# Altium schematic symbol library ICs.SchLib: 74 symbols (part 1 of 2)
Pins are listed as number, name and electrical type; pins without a type are passive.

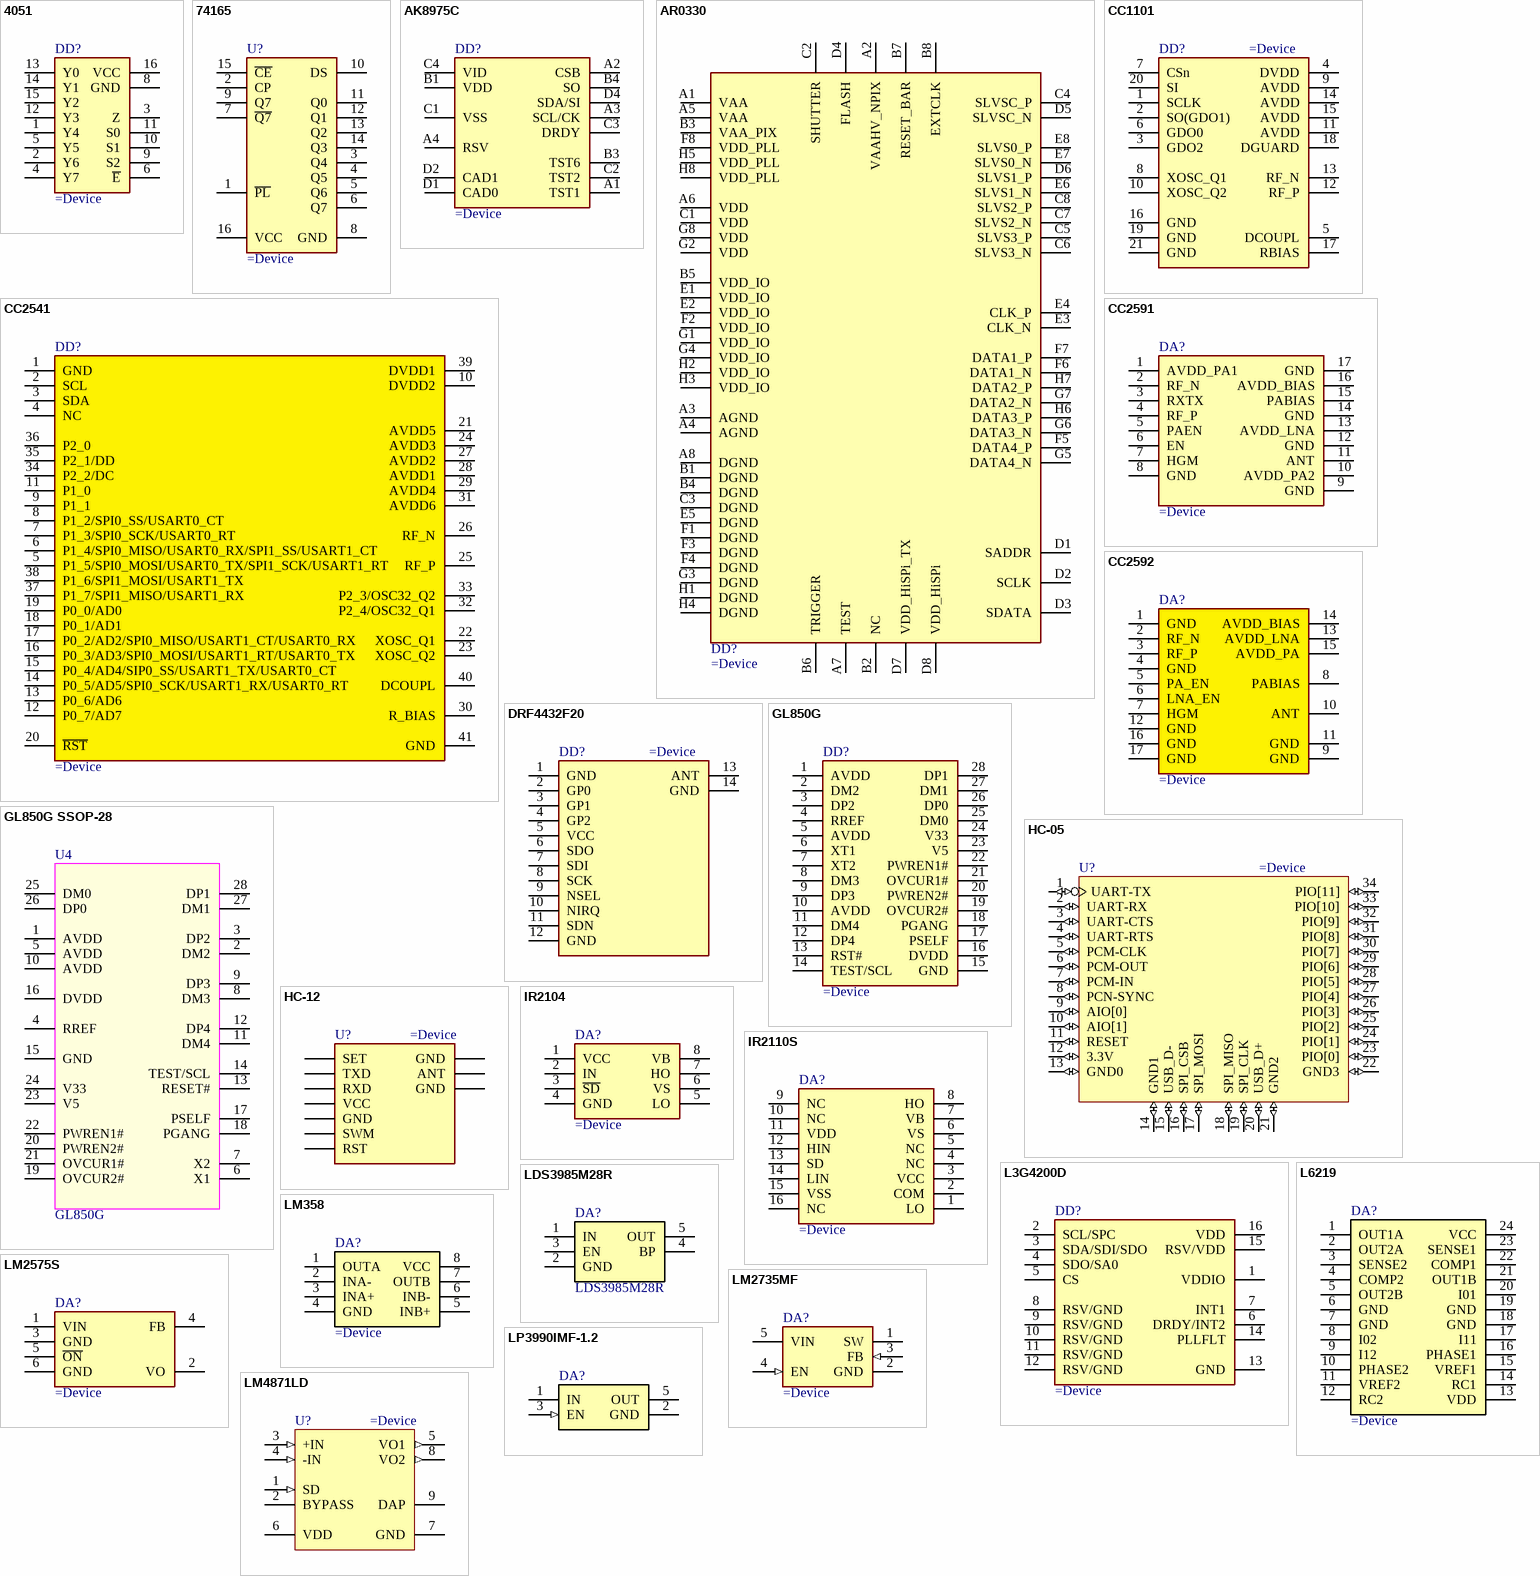
[diagram p0: symbols 4051 to LP3990IMF-1.2]

## 4051
designator DD?
pins: 1 Y4, 2 Y6, 3 Z, 4 Y7, 5 Y5, 6 ~{E}, 8 GND, 9 S2, 10 S1, 11 S0, 12 Y3, 13 Y0, 14 Y1, 15 Y2, 16 VCC

## 74165
designator U?
pins: 1 ~{PL} "master reset (active LOW)", 2 CP "master reset (active LOW)", 3 Q4 (hiz) "parallel data output 4", 4 Q5 (hiz) "parallel data output 5", 5 Q6 (hiz) "parallel data output 6", 6 Q7 (hiz) "parallel data output 7", 7 ~{Q7} "serial data output", 8 GND (power) "ground (0 V)", 9 Q7 "shift register clock input", 10 DS "output enable input (active LOW)", 11 Q0 (hiz) "parallel data output 0", 12 Q1 (hiz) "parallel data output 1", 13 Q2 (hiz) "parallel data output 2", 14 Q3 (hiz) "parallel data output 3", 15 ~{CE} "storage register clock input", 16 VCC (power) "supply voltage"

## AK8975C
designator DD?
pins: A1 TST1, A2 CSB, A3 SCL/CK, A4 RSV, B1 VDD, B3 TST6, B4 SO, C1 VSS, C2 TST2, C3 DRDY, C4 VID, D1 CAD0, D2 CAD1, D4 SDA/SI

## AR0330
designator DD?
pins: A1 VAA, A2 VAAHV_NPIX, A3 AGND, A4 AGND, A5 VAA, A6 VDD, A7 TEST, A8 DGND, B1 DGND, B2 NC, B3 VAA_PIX, B4 DGND, B5 VDD_IO, B6 TRIGGER, B7 RESET_BAR, B8 EXTCLK, C1 VDD, C2 SHUTTER, C3 DGND, C4 SLVSC_P, C5 SLVS3_P, C6 SLVS3_N, C7 SLVS2_N, C8 SLVS2_P, D1 SADDR, D2 SCLK, D3 SDATA, D4 FLASH, D5 SLVSC_N, D6 SLVS1_P, D7 VDD_HiSPi_TX, D8 VDD_HiSPi, E1 VDD_IO, E2 VDD_IO, E3 CLK_N, E4 CLK_P, E5 DGND, E6 SLVS1_N, E7 SLVS0_N, E8 SLVS0_P, F1 DGND, F2 VDD_IO, F3 DGND, F4 DGND, F5 DATA4_P, F6 DATA1_N, F7 DATA1_P, F8 VDD_PLL, G1 VDD_IO, G2 VDD, G3 DGND, G4 VDD_IO, G5 DATA4_N, G6 DATA3_N, G7 DATA2_N, G8 VDD, H1 DGND, H2 VDD_IO, H3 VDD_IO, H4 DGND, H5 VDD_PLL, H6 DATA3_P, H7 DATA2_P, H8 VDD_PLL

## CC1101
designator DD?
pins: 1 SCLK, 2 SO(GDO1), 3 GDO2, 4 DVDD, 5 DCOUPL, 6 GDO0, 7 CSn, 8 XOSC_Q1, 9 AVDD, 10 XOSC_Q2, 11 AVDD, 12 RF_P, 13 RF_N, 14 AVDD, 15 AVDD, 16 GND, 17 RBIAS, 18 DGUARD, 19 GND, 20 SI, 21 GND

## CC2541
designator DD?
pins: 1 GND, 2 SCL, 3 SDA, 4 NC, 5 P1_5/SPI0_MOSI/USART0_TX/SPI1_SCK/USART1_RT, 6 P1_4/SPI0_MISO/USART0_RX/SPI1_SS/USART1_CT, 7 P1_3/SPI0_SCK/USART0_RT, 8 P1_2/SPI0_SS/USART0_CT, 9 P1_1, 10 DVDD2, 11 P1_0, 12 P0_7/AD7, 13 P0_6/AD6, 14 P0_5/AD5/SPI0_SCK/USART1_RX/USART0_RT, 15 P0_4/AD4/SIP0_SS/USART1_TX/USART0_CT, 16 P0_3/AD3/SPI0_MOSI/USART1_RT/USART0_TX, 17 P0_2/AD2/SPI0_MISO/USART1_CT/USART0_RX, 18 P0_1/AD1, 19 P0_0/AD0, 20 ~{RST}, 21 AVDD5, 22 XOSC_Q1, 23 XOSC_Q2, 24 AVDD3, 25 RF_P, 26 RF_N, 27 AVDD2, 28 AVDD1, 29 AVDD4, 30 R_BIAS, 31 AVDD6, 32 P2_4/OSC32_Q1, 33 P2_3/OSC32_Q2, 34 P2_2/DC, 35 P2_1/DD, 36 P2_0, 37 P1_7/SPI1_MISO/USART1_RX, 38 P1_6/SPI1_MOSI/USART1_TX, 39 DVDD1, 40 DCOUPL, 41 GND

## CC2591
designator DA?
CC2591
pins: 1 AVDD_PA1, 2 RF_N, 3 RXTX, 4 RF_P, 5 PAEN, 6 EN, 7 HGM, 8 GND, 9 GND, 10 AVDD_PA2, 11 ANT, 12 GND, 13 AVDD_LNA, 14 GND, 15 PABIAS, 16 AVDD_BIAS, 17 GND

## CC2592
designator DA?
pins: 1 GND, 2 RF_N, 3 RF_P, 4 GND, 5 PA_EN, 6 LNA_EN, 7 HGM, 8 PABIAS, 9 GND, 10 ANT, 11 GND, 12 GND, 13 AVDD_LNA, 14 AVDD_BIAS, 15 AVDD_PA, 16 GND, 17 GND

## DRF4432F20
designator DD?
pins: 1 GND, 2 GP0, 3 GP1, 4 GP2, 5 VCC, 6 SDO, 7 SDI, 8 SCK, 9 NSEL, 10 NIRQ, 11 SDN, 12 GND, 13 ANT, 14 GND

## GL850G
designator DD?
pins: 1 AVDD, 2 DM2, 3 DP2, 4 RREF, 5 AVDD, 6 XT1, 7 XT2, 8 DM3, 9 DP3, 10 AVDD, 11 DM4, 12 DP4, 13 RST#, 14 TEST/SCL, 15 GND, 16 DVDD, 17 PSELF, 18 PGANG, 19 OVCUR2#, 20 PWREN2#, 21 OVCUR1#, 22 PWREN1#, 23 V5, 24 V33, 25 DM0, 26 DP0, 27 DM1, 28 DP1

## GL850G SSOP-28
designator U4, comment GL850G
USB HUB IC,1 TO 4
footprint SSOP65P780X200-28N (SSOP, 28-Leads, Body 10.20x5.30mm, Pitch 0.65mm, IPC Medium Density)
pins: 1 AVDD, 2 DM2, 3 DP2, 4 RREF, 5 AVDD, 6 X1, 7 X2, 8 DM3, 9 DP3, 10 AVDD, 11 DM4, 12 DP4, 13 RESET#, 14 TEST/SCL, 15 GND, 16 DVDD, 17 PSELF, 18 PGANG, 19 OVCUR2#, 20 PWREN2#, 21 OVCUR1#, 22 PWREN1#, 23 V5, 24 V33, 25 DM0, 26 DP0, 27 DM1, 28 DP1

## HC-05
designator U?
pins: 1 UART-TX (io), 2 UART-RX (io), 3 UART-CTS (io), 4 UART-RTS (io), 5 PCM-CLK (io), 6 PCM-OUT (io), 7 PCM-IN (io), 8 PCN-SYNC (io), 9 AIO[0] (io), 10 AIO[1] (io), 11 RESET (io), 12 3.3V (io), 13 GND0 (io), 14 GND1 (io), 15 USB_D- (io), 16 SPI_CSB (io), 17 SPI_MOSI (io), 18 SPI_MISO (io), 19 SPI_CLK (io), 20 USB_D+ (io), 21 GND2 (io), 22 GND3 (io), 23 PIO[0] (io), 24 PIO[1] (io), 25 PIO[2] (io), 26 PIO[3] (io), 27 PIO[4] (io), 28 PIO[5] (io), 29 PIO[6] (io), 30 PIO[7] (io), 31 PIO[8] (io), 32 PIO[9] (io), 33 PIO[10] (io), 34 PIO[11] (io)

## HC-12
designator U?
pins: ANT, GND, GND, GND, RST, RXD, SET, SWM, TXD, VCC

## IR2104
designator DA?
pins: 1 VCC, 2 IN, 3 ~{SD}, 4 GND, 5 LO, 6 VS, 7 HO, 8 VB

## IR2110S
designator DA?
pins: 1 LO, 2 COM, 3 VCC, 4 NC, 5 NC, 6 VS, 7 VB, 8 HO, 9 NC, 10 NC, 11 VDD, 12 HIN, 13 SD, 14 LIN, 15 VSS, 16 NC

## L3G4200D
designator DD?
pins: 1 VDDIO, 2 SCL/SPC, 3 SDA/SDI/SDO, 4 SDO/SA0, 5 CS, 6 DRDY/INT2, 7 INT1, 8 RSV/GND, 9 RSV/GND, 10 RSV/GND, 11 RSV/GND, 12 RSV/GND, 13 GND, 14 PLLFLT, 15 RSV/VDD, 16 VDD

## L6219
designator DA?
pins: 1 OUT1A, 2 OUT2A, 3 SENSE2, 4 COMP2, 5 OUT2B, 6 GND, 7 GND, 8 I02, 9 I12, 10 PHASE2, 11 VREF2, 12 RC2, 13 VDD, 14 RC1, 15 VREF1, 16 PHASE1, 17 I11, 18 GND, 19 GND, 20 I01, 21 OUT1B, 22 COMP1, 23 SENSE1, 24 VCC

## LDS3985M28R
designator DA?  PartNumber: LDS3985M28R
2.8V Ultra Low Drop Voltage Regulator
footprint SOT23-5 (SOT23, 5-Leads, Body 2.9x1.6mm, Pitch 0.95mm, Lead Span 2.8mm, IPC High Density)
pins: 1 IN, 2 GND, 3 EN, 4 BP, 5 OUT

## LM358
designator DA?
OP Amp
pins: 1 OUTA, 2 INA-, 3 INA+, 4 GND, 5 INB+, 6 INB-, 7 OUTB, 8 VCC

## LM2575S
designator DA?
pins: 1 VIN, 2 VO, 3 GND, 4 FB, 5 ~{ON}, 6 GND

## LM2735MF
designator DA?
pins: 1 SW (power), 2 GND (power), 3 FB (in), 4 EN (in), 5 VIN (power)

## LM4871LD
designator U?
pins: 1 SD (in), 2 BYPASS, 3 +IN (in), 4 -IN (in), 5 VO1 (out), 6 VDD (power), 7 GND (power), 8 VO2 (out), 9 DAP (power)

## LP3990IMF-1.2
designator DA?
Micropower, 150mA Ultra Low-Dropout CMOS Voltage Regulator in Subminiature 4-I/O micro SMD Package
footprint SOT23-5 (SOT23, 5-Leads, Body 2.9x1.6mm, Pitch 0.95mm, Lead Span 2.8mm, IPC High Density)
pins: 1 IN (power), 2 GND (power), 3 EN (in), 5 OUT (power)

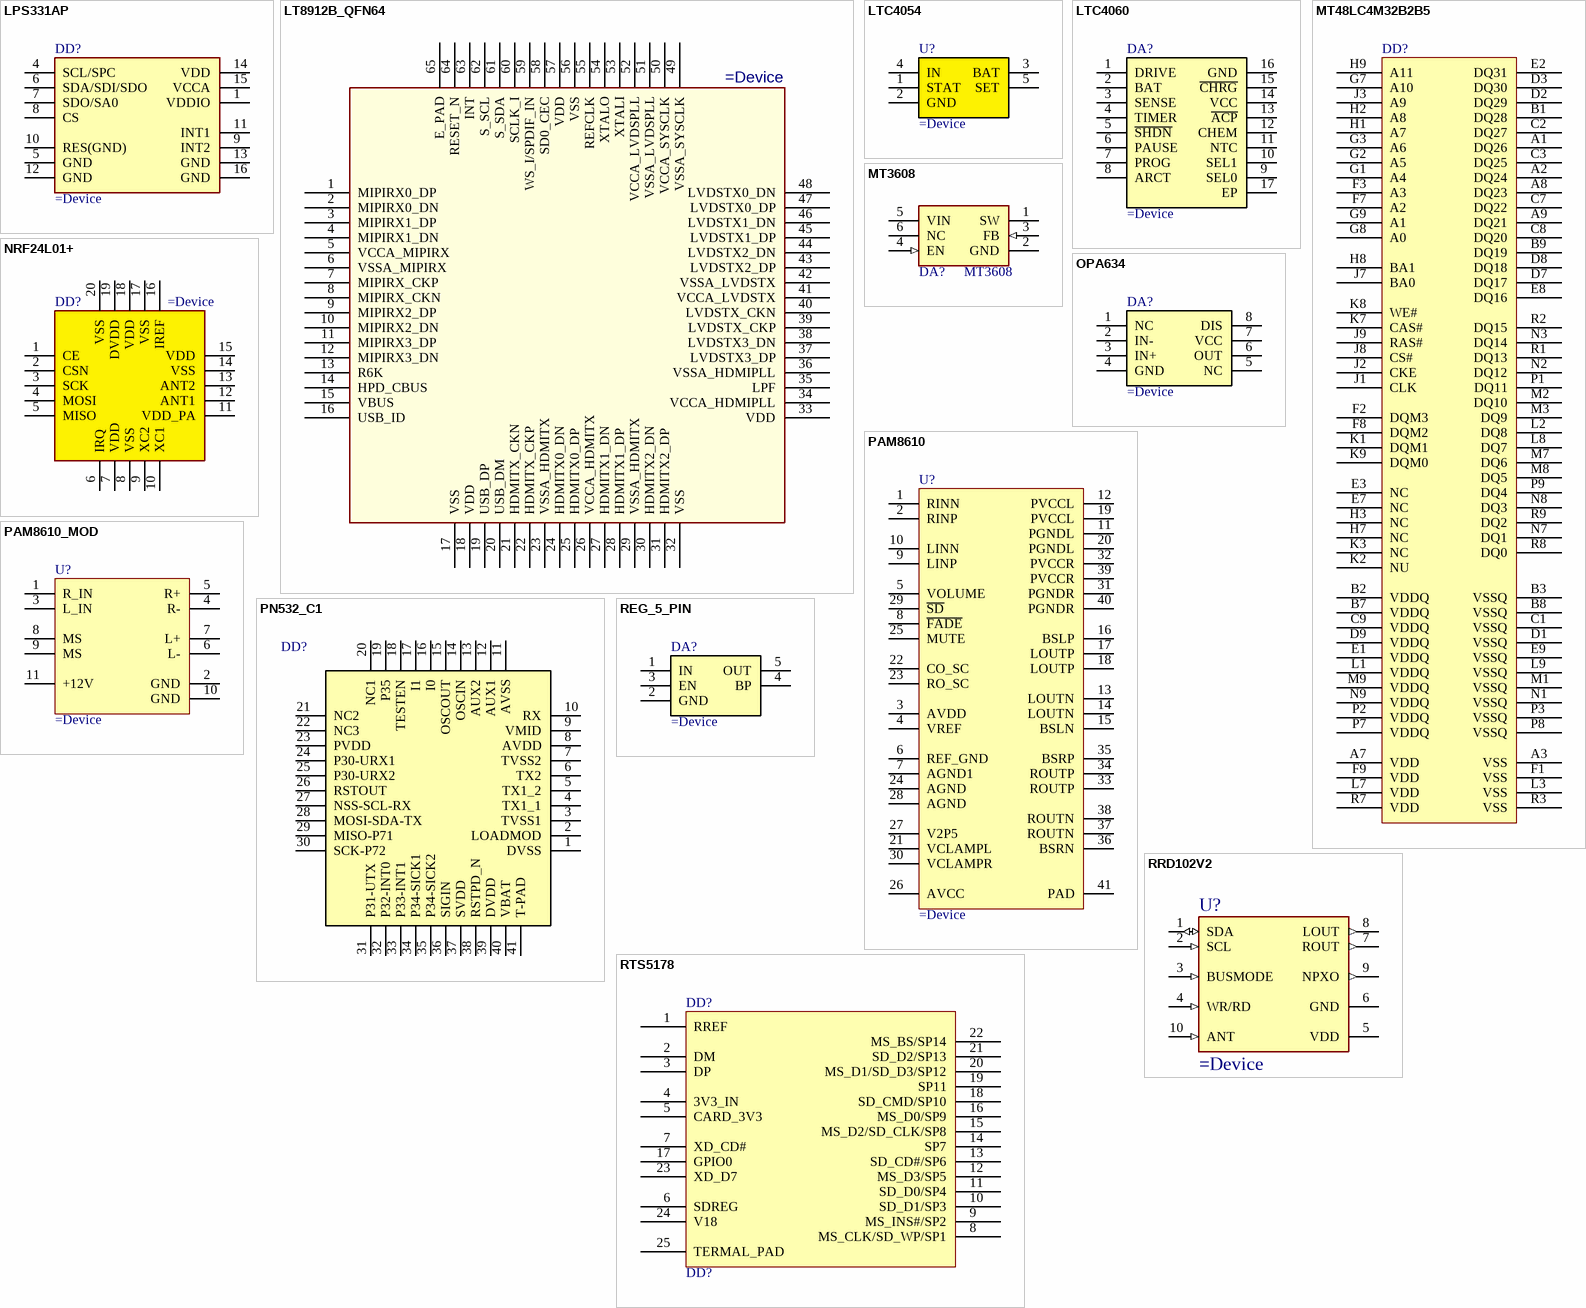
[diagram p1: symbols LPS331AP to RTS5178]

## LPS331AP
designator DD?
pins: 1 VDDIO, 4 SCL/SPC, 5 GND, 6 SDA/SDI/SDO, 7 SDO/SA0, 8 CS, 9 INT2, 10 RES(GND), 11 INT1, 12 GND, 13 GND, 14 VDD, 15 VCCA, 16 GND

## LT8912B_QFN64
designator U?
pins: 1 MIPIRX0_DP, 2 MIPIRX0_DN, 3 MIPIRX1_DP, 4 MIPIRX1_DN, 5 VCCA_MIPIRX (power), 6 VSSA_MIPIRX (power), 7 MIPIRX_CKP, 8 MIPIRX_CKN, 9 MIPIRX2_DP, 10 MIPIRX2_DN, 11 MIPIRX3_DP, 12 MIPIRX3_DN, 13 R6K, 14 HPD_CBUS, 15 VBUS, 16 USB_ID, 17 VSS (power), 18 VDD (power), 19 USB_DP, 20 USB_DM, 21 HDMITX_CKN, 22 HDMITX_CKP, 23 VSSA_HDMITX (power), 24 HDMITX0_DN, 25 HDMITX0_DP, 26 VCCA_HDMITX (power), 27 HDMITX1_DN, 28 HDMITX1_DP, 29 VSSA_HDMITX (power), 30 HDMITX2_DN, 31 HDMITX2_DP, 32 VSS (power), 33 VDD (power), 34 VCCA_HDMIPLL (power), 35 LPF, 36 VSSA_HDMIPLL (power), 37 LVDSTX3_DP, 38 LVDSTX3_DN, 39 LVDSTX_CKP, 40 LVDSTX_CKN, 41 VCCA_LVDSTX (power), 42 VSSA_LVDSTX (power), 43 LVDSTX2_DP, 44 LVDSTX2_DN, 45 LVDSTX1_DP, 46 LVDSTX1_DN, 47 LVDSTX0_DP, 48 LVDSTX0_DN, 49 VSSA_SYSCLK (power), 50 VCCA_SYSCLK (power), 51 VSSA_LVDSPLL (power), 52 VCCA_LVDSPLL (power), 53 XTALI, 54 XTALO, 55 REFCLK, 56 VSS (power), 57 VDD (power), 58 SD0_CEC, 59 WS_I/SPDIF_IN, 60 SCLK_I, 61 S_SDA, 62 S_SCL, 63 INT, 64 RESET_N, 65 E_PAD

## LTC4054
designator U?
pins: 1 STAT, 2 GND (power), 3 BAT (power), 4 IN (power), 5 SET (oc)

## LTC4060
designator DA?
pins: 1 DRIVE, 2 BAT, 3 SENSE, 4 TIMER, 5 ~{SHDN}, 6 PAUSE, 7 PROG, 8 ARCT, 9 SEL0, 10 SEL1, 11 NTC, 12 CHEM, 13 ~{ACP}, 14 VCC, 15 ~{CHRG}, 16 GND, 17 EP

## MT48LC4M32B2B5
designator DD?
PartNumber: MT48LC4M32B2B5-7
footprint TFBGA90L
pins: A1 DQ26, A2 DQ24, A3 VSS, A7 VDD, A8 DQ23, A9 DQ21, B1 DQ28, B2 VDDQ, B3 VSSQ, B7 VDDQ, B8 VSSQ, B9 DQ19, C1 VSSQ, C2 DQ27, C3 DQ25, C7 DQ22, C8 DQ20, C9 VDDQ, D1 VSSQ, D2 DQ29, D3 DQ30, D7 DQ17, D8 DQ18, D9 VDDQ, E1 VDDQ, E2 DQ31, E3 NC, E7 NC, E8 DQ16, E9 VSSQ, F1 VSS, F2 DQM3, F3 A3, F7 A2, F8 DQM2, F9 VDD, G1 A4, G2 A5, G3 A6, G7 A10, G8 A0, G9 A1, H1 A7, H2 A8, H3 NC, H7 NC, H8 BA1, H9 A11, J1 CLK, J2 CKE, J3 A9, J7 BA0, J8 CS#, J9 RAS#, K1 DQM1, K2 NU, K3 NC, K7 CAS#, K8 WE#, K9 DQM0, L1 VDDQ, L2 DQ8, L3 VSS, L7 VDD, L8 DQ7, L9 VSSQ, M1 VSSQ, M2 DQ10, M3 DQ9, M7 DQ6, M8 DQ5, M9 VDDQ, N1 VSSQ, N2 DQ12, N3 DQ14, N7 DQ1, N8 DQ3, N9 VDDQ, P1 DQ11, P2 VDDQ, P3 VSSQ, P7 VDDQ, P8 VSSQ, P9 DQ4, R1 DQ13, R2 DQ15, R3 VSS, R7 VDD, R8 DQ0, R9 DQ2

## MT3608
designator DA?
Table: Regulators; Part Number: MT3608; Device: MT3608
footprint SOT23-6
pins: 1 SW (power), 2 GND (power), 3 FB (in), 4 EN (in), 5 VIN (power), 6 NC (power)

## NRF24L01+
designator DD?
pins: 1 CE, 2 CSN, 3 SCK, 4 MOSI, 5 MISO, 6 IRQ, 7 VDD, 8 VSS, 9 XC2, 10 XC1, 11 VDD_PA, 12 ANT1, 13 ANT2, 14 VSS, 15 VDD, 16 IREF, 17 VSS, 18 VDD, 19 DVDD, 20 VSS

## OPA634
designator DA?
OP Amp
pins: 1 NC, 2 IN-, 3 IN+, 4 GND, 5 NC, 6 OUT, 7 VCC, 8 DIS

## PAM8610
designator U?
footprint QFN40_6x6_0.50_P (QFN, 40-Leads, Body 6,00x6,00mm, Pitch 0,50mm, Thermal Pad 4,50x4,50mm, IPC Medium Density)
pins: 1 RINN, 2 RINP, 3 AVDD, 4 VREF, 5 VOLUME, 6 REF_GND, 7 AGND1, 8 ~{FADE}, 9 LINP, 10 LINN, 11 PGNDL, 12 PVCCL, 13 LOUTN, 14 LOUTN, 15 BSLN, 16 BSLP, 17 LOUTP, 18 LOUTP, 19 PVCCL, 20 PGNDL, 21 VCLAMPL, 22 CO_SC, 23 RO_SC, 24 AGND, 25 MUTE, 26 AVCC, 27 V2P5, 28 AGND, 29 ~{SD}, 30 VCLAMPR, 31 PGNDR, 32 PVCCR, 33 ROUTP, 34 ROUTP, 35 BSRP, 36 BSRN, 37 ROUTN, 38 ROUTN, 39 PVCCR, 40 PGNDR, 41 PAD

## PAM8610_MOD
designator U?
Part Number: PAM8610_Module; Family: PAM8610_Module
footprint PAM8610
pins: 1 R_IN, 2 GND, 3 L_IN, 4 R-, 5 R+, 6 L-, 7 L+, 8 MS, 9 MS, 10 GND, 11 +12V

## PN532_C1
designator DD?
pins: 1 DVSS (power), 2 LOADMOD (power), 3 TVSS1 (power), 4 TX1_1 (power), 5 TX1_2 (power), 6 TX2 (power), 7 TVSS2 (power), 8 AVDD (power), 9 VMID (power), 10 RX (power), 11 AVSS (power), 12 AUX1 (power), 13 AUX2 (power), 14 OSCIN (power), 15 OSCOUT (power), 16 I0 (power), 17 I1 (power), 18 TESTEN (power), 19 P35 (power), 20 NC1 (power), 21 NC2 (power), 22 NC3 (power), 23 PVDD (power), 24 P30-URX1 (power), 25 P30-URX2 (power), 26 RSTOUT (power), 27 NSS-SCL-RX (power), 28 MOSI-SDA-TX (power), 29 MISO-P71 (power), 30 SCK-P72 (power), 31 P31-UTX (power), 32 P32-INT0 (power), 33 P33-INT1 (power), 34 P34-SICK1 (power), 35 P34-SICK2 (power), 36 SIGIN (power), 37 SVDD (power), 38 RSTPD_N (power), 39 DVDD (power), 40 VBAT (power), 41 T-PAD (power)

## REG_5_PIN
designator DA?
pins: 1 IN, 2 GND, 3 EN, 4 BP, 5 OUT

## RRD102V2
designator U?
FM-reciever module for Arduino
pins: 1 SDA (io), 2 SCL (in), 3 BUSMODE (in), 4 WR/RD (in), 5 VDD (power), 6 GND (power), 7 ROUT (out), 8 LOUT (out), 9 NPXO (out), 10 ANT (in)

## RTS5178
designator DD?, comment DD?
pins: 1 RREF, 2 DM, 3 DP, 4 3V3_IN, 5 CARD_3V3, 6 SDREG, 7 XD_CD#, 8 MS_CLK/SD_WP/SP1, 9 MS_INS#/SP2, 10 SD_D1/SP3, 11 SD_D0/SP4, 12 MS_D3/SP5, 13 SD_CD#/SP6, 14 SP7, 15 MS_D2/SD_CLK/SP8, 16 MS_D0/SP9, 17 GPIO0, 18 SD_CMD/SP10, 19 SP11, 20 MS_D1/SD_D3/SP12, 21 SD_D2/SP13, 22 MS_BS/SP14, 23 XD_D7, 24 V18, 25 TERMAL_PAD

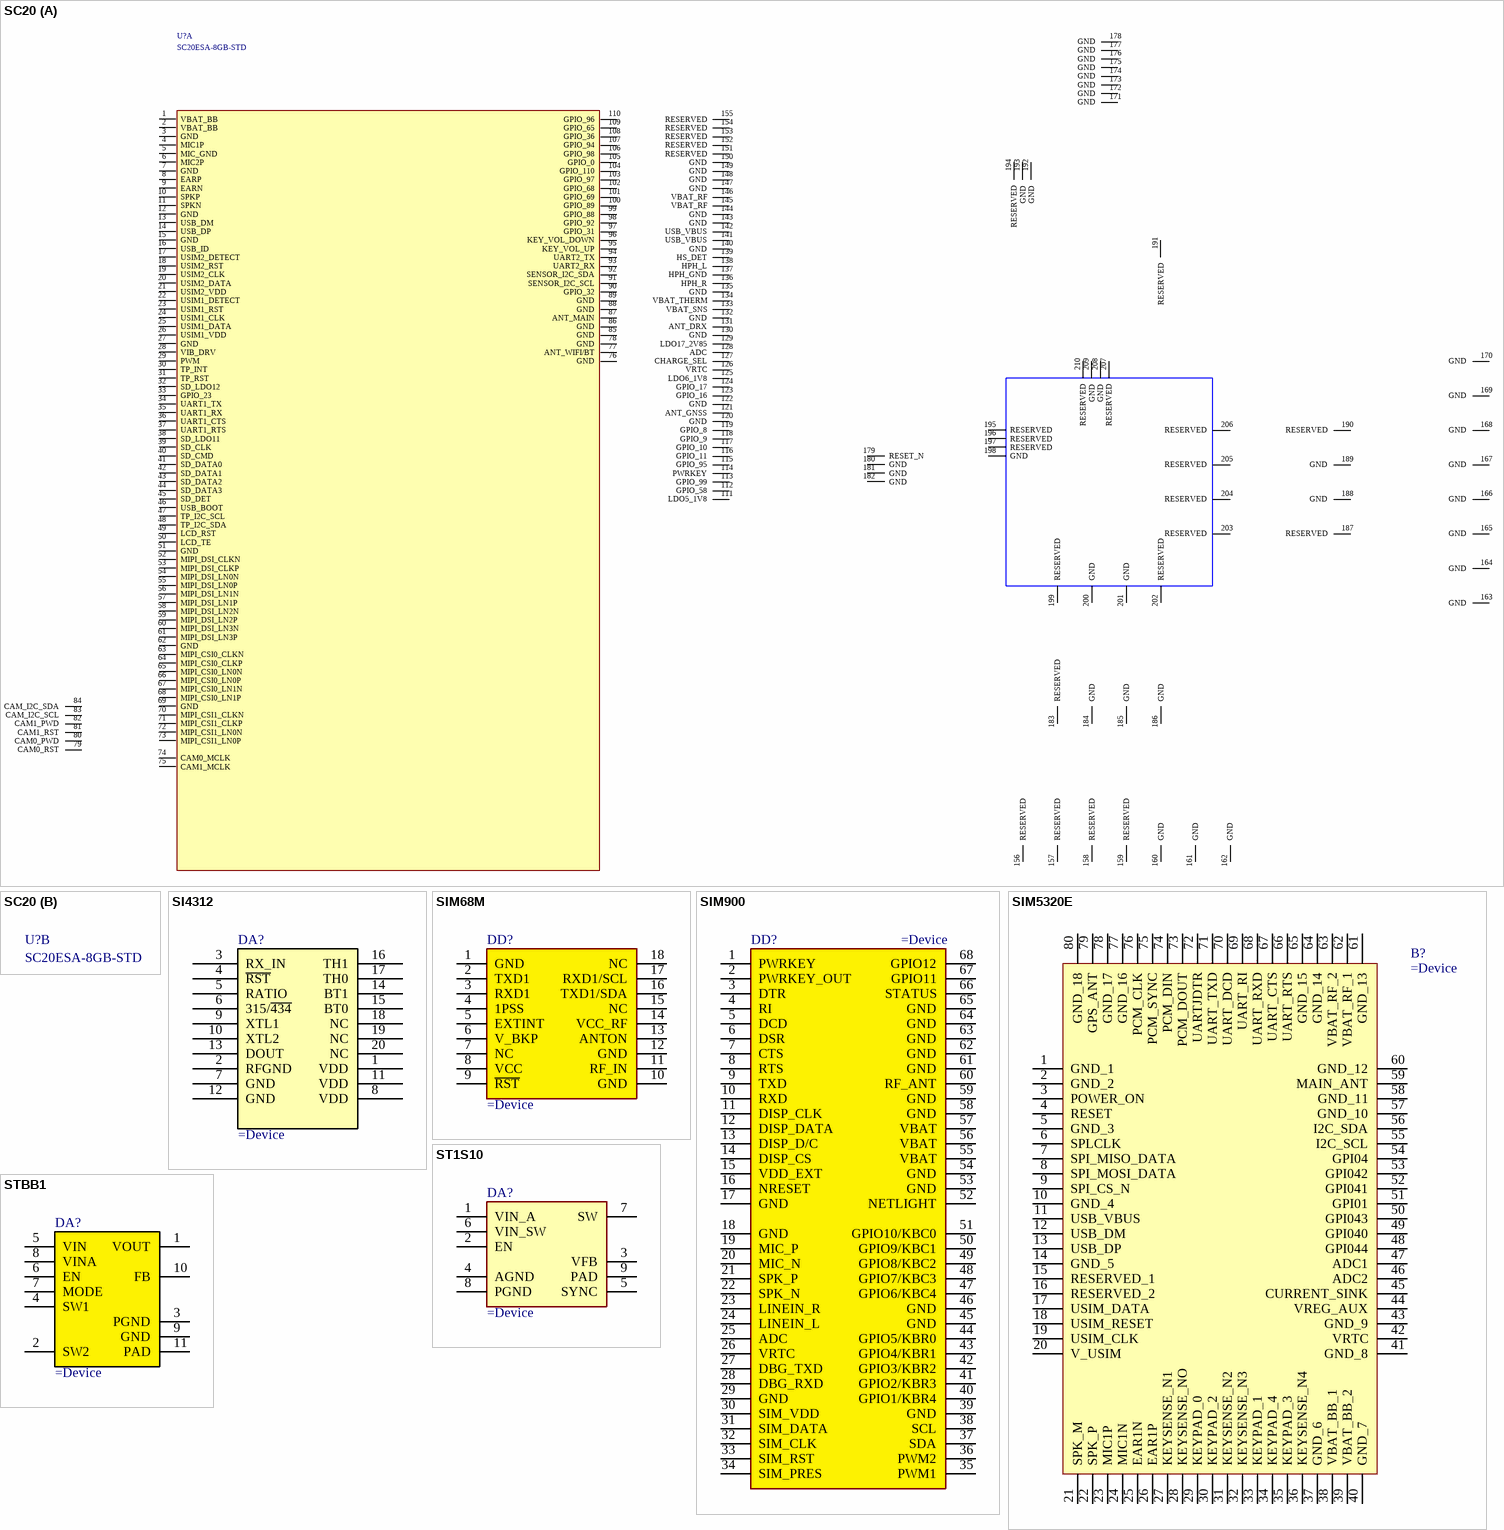
[diagram p2: symbols SC20 to STBB1]

## SC20
designator U?, comment SC20ESA-8GB-STD
Geometry.Height: 2.8MM; PCB DECAL: SC20; PartNumber: SC20ESA-8GB-STD
footprint PCBComponent_1
part A pins: 1 VBAT_BB, 2 VBAT_BB, 3 GND, 4 MIC1P, 5 MIC_GND, 6 MIC2P, 7 GND, 8 EARP, 9 EARN, 10 SPKP, 11 SPKN, 12 GND, 13 USB_DM, 14 USB_DP, 15 GND, 16 USB_ID, 17 USIM2_DETECT, 18 USIM2_RST, 19 USIM2_CLK, 20 USIM2_DATA, 21 USIM2_VDD, 22 USIM1_DETECT, 23 USIM1_RST, 24 USIM1_CLK, 25 USIM1_DATA, 26 USIM1_VDD, 27 GND, 28 VIB_DRV, 29 PWM, 30 TP_INT, 31 TP_RST, 32 SD_LDO12, 33 GPIO_23, 34 UART1_TX, 35 UART1_RX, 36 UART1_CTS, 37 UART1_RTS, 38 SD_LDO11, 39 SD_CLK, 40 SD_CMD, 41 SD_DATA0, 42 SD_DATA1, 43 SD_DATA2, 44 SD_DATA3, 45 SD_DET, 46 USB_BOOT, 47 TP_I2C_SCL, 48 TP_I2C_SDA, 49 LCD_RST, 50 LCD_TE, 51 GND, 52 MIPI_DSI_CLKN, 53 MIPI_DSI_CLKP, 54 MIPI_DSI_LN0N, 55 MIPI_DSI_LN0P, 56 MIPI_DSI_LN1N, 57 MIPI_DSI_LN1P, 58 MIPI_DSI_LN2N, 59 MIPI_DSI_LN2P, 60 MIPI_DSI_LN3N, 61 MIPI_DSI_LN3P, 62 GND, 63 MIPI_CSI0_CLKN, 64 MIPI_CSI0_CLKP, 65 MIPI_CSI0_LN0N, 66 MIPI_CSI0_LN0P, 67 MIPI_CSI0_LN1N, 68 MIPI_CSI0_LN1P, 69 GND, 70 MIPI_CSI1_CLKN, 71 MIPI_CSI1_CLKP, 72 MIPI_CSI1_LN0N, 73 MIPI_CSI1_LN0P, 74 CAM0_MCLK, 75 CAM1_MCLK, 76 GND, 77 ANT_WIFI/BT, 78 GND, 79 CAM0_RST, 80 CAM0_PWD, 81 CAM1_RST, 82 CAM1_PWD, 83 CAM_I2C_SCL, 84 CAM_I2C_SDA, 85 GND, 86 GND, 87 ANT_MAIN, 88 GND, 89 GND, 90 GPIO_32, 91 SENSOR_I2C_SCL, 92 SENSOR_I2C_SDA, 93 UART2_RX, 94 UART2_TX, 95 KEY_VOL_UP, 96 KEY_VOL_DOWN, 97 GPIO_31, 98 GPIO_92, 99 GPIO_88, 100 GPIO_89, 101 GPIO_69, 102 GPIO_68, 103 GPIO_97, 104 GPIO_110, 105 GPIO_0, 106 GPIO_98, 107 GPIO_94, 108 GPIO_36, 109 GPIO_65, 110 GPIO_96, 111 LDO5_1V8, 112 GPIO_58, 113 GPIO_99, 114 PWRKEY, 115 GPIO_95, 116 GPIO_11, 117 GPIO_10, 118 GPIO_9, 119 GPIO_8, 120 GND, 121 ANT_GNSS, 122 GND, 123 GPIO_16, 124 GPIO_17, 125 LDO6_1V8, 126 VRTC, 127 CHARGE_SEL, 128 ADC, 129 LDO17_2V85, 130 GND, 131 ANT_DRX, 132 GND, 133 VBAT_SNS, 134 VBAT_THERM, 135 GND, 136 HPH_R, 137 HPH_GND, 138 HPH_L, 139 HS_DET, 140 GND, 141 USB_VBUS, 142 USB_VBUS, 143 GND, 144 GND, 145 VBAT_RF, 146 VBAT_RF, 147 GND, 148 GND, 149 GND, 150 GND, 151 RESERVED, 152 RESERVED, 153 RESERVED, 154 RESERVED, 155 RESERVED, 156 RESERVED, 157 RESERVED, 158 RESERVED, 159 RESERVED, 160 GND, 161 GND, 162 GND, 163 GND, 164 GND, 165 GND, 166 GND, 167 GND, 168 GND, 169 GND, 170 GND, 171 GND, 172 GND, 173 GND, 174 GND, 175 GND, 176 GND, 177 GND, 178 GND, 179 RESET_N, 180 GND, 181 GND, 182 GND, 183 RESERVED, 184 GND, 185 GND, 186 GND, 187 RESERVED, 188 GND, 189 GND, 190 RESERVED, 191 RESERVED, 192 GND, 193 GND, 194 RESERVED, 195 RESERVED, 196 RESERVED, 197 RESERVED, 198 GND, 199 RESERVED, 200 GND, 201 GND, 202 RESERVED, 203 RESERVED, 204 RESERVED, 205 RESERVED, 206 RESERVED, 207 RESERVED, 208 GND, 209 GND, 210 RESERVED

## SI4312
designator DA?
pins: 1 VDD, 2 RFGND, 3 RX_IN, 4 ~{RST}, 5 RATIO, 6 315/~{434}, 7 GND, 8 VDD, 9 XTL1, 10 XTL2, 11 VDD, 12 GND, 13 DOUT, 14 BT1, 15 BT0, 16 TH1, 17 TH0, 18 NC, 19 NC, 20 NC, 21 PAD hidden to GND

## SIM68M
designator DD?
pins: 1 GND, 2 TXD1, 3 RXD1, 4 1PSS, 5 EXTINT, 6 V_BKP, 7 NC, 8 VCC, 9 ~{RST}, 10 GND, 11 RF_IN, 12 GND, 13 ANTON, 14 VCC_RF, 15 NC, 16 TXD1/SDA, 17 RXD1/SCL, 18 NC

## SIM900
designator DD?
GSM/GPRS module SIM900
pins: 1 PWRKEY, 2 PWRKEY_OUT, 3 DTR, 4 RI, 5 DCD, 6 DSR, 7 CTS, 8 RTS, 9 TXD, 10 RXD, 11 DISP_CLK, 12 DISP_DATA, 13 DISP_D/C, 14 DISP_CS, 15 VDD_EXT, 16 NRESET, 17 GND, 18 GND, 19 MIC_P, 20 MIC_N, 21 SPK_P, 22 SPK_N, 23 LINEIN_R, 24 LINEIN_L, 25 ADC, 26 VRTC, 27 DBG_TXD, 28 DBG_RXD, 29 GND, 30 SIM_VDD, 31 SIM_DATA, 32 SIM_CLK, 33 SIM_RST, 34 SIM_PRES, 35 PWM1, 36 PWM2, 37 SDA, 38 SCL, 39 GND, 40 GPIO1/KBR4, 41 GPIO2/KBR3, 42 GPIO3/KBR2, 43 GPIO4/KBR1, 44 GPIO5/KBR0, 45 GND, 46 GND, 47 GPIO6/KBC4, 48 GPIO7/KBC3, 49 GPIO8/KBC2, 50 GPIO9/KBC1, 51 GPIO10/KBC0, 52 NETLIGHT, 53 GND, 54 GND, 55 VBAT, 56 VBAT, 57 VBAT, 58 GND, 59 GND, 60 RF_ANT, 61 GND, 62 GND, 63 GND, 64 GND, 65 GND, 66 STATUS, 67 GPIO11, 68 GPIO12

## SIM5320E
designator B?
The SIM5320 series is Dual-Band HSDPA/WCDMA and Quad-Band GSM/GPRS/EDGE module solution in a SMT type which supports HSDPA up to 3.6Mbps for downlink data transfer.; Manufacturer_Name: SIMCOM; Manufacturer_Part_Number: SIM5320A; Geometry.Height: 1.8mm; RS Part Number: *; RS Price/Stock: *; Arrow Part Number: SIM5320A; Arrow Price/Stock: *; Datasheet Link: http://simcom.ee/documents/SIM5320/SIM5320_Hardware_Design_V1.07.pdf
pins: 1 GND_1, 2 GND_2, 3 POWER_ON, 4 RESET, 5 GND_3, 6 SPLCLK, 7 SPI_MISO_DATA, 8 SPI_MOSI_DATA, 9 SPI_CS_N, 10 GND_4, 11 USB_VBUS, 12 USB_DM, 13 USB_DP, 14 GND_5, 15 RESERVED_1, 16 RESERVED_2, 17 USIM_DATA, 18 USIM_RESET, 19 USIM_CLK, 20 V_USIM, 21 SPK_M, 22 SPK_P, 23 MIC1P, 24 MIC1N, 25 EAR1N, 26 EAR1P, 27 KEYSENSE_N1, 28 KEYSENSE_NO, 29 KEYPAD_0, 30 KEYPAD_2, 31 KEYSENSE_N2, 32 KEYSENSE_N3, 33 KEYPAD_1, 34 KEYPAD_4, 35 KEYPAD_3, 36 KEYSENSE_N4, 37 GND_6, 38 VBAT_BB_1, 39 VBAT_BB_2, 40 GND_7, 41 GND_8, 42 VRTC, 43 GND_9, 44 VREG_AUX, 45 CURRENT_SINK, 46 ADC2, 47 ADC1, 48 GPI044, 49 GPI040, 50 GPI043, 51 GPI01, 52 GPI041, 53 GPI042, 54 GPI04, 55 I2C_SCL, 56 I2C_SDA, 57 GND_10, 58 GND_11, 59 MAIN_ANT, 60 GND_12, 61 GND_13, 62 VBAT_RF_1, 63 VBAT_RF_2, 64 GND_14, 65 GND_15, 66 UART_RTS, 67 UART_CTS, 68 UART_RXD, 69 UART_RI, 70 UART_DCD, 71 UART_TXD, 72 UARTJDTR, 73 PCM_DOUT, 74 PCM_DIN, 75 PCM_SYNC, 76 PCM_CLK, 77 GND_16, 78 GND_17, 79 GPS_ANT, 80 GND_18

## ST1S10
designator DA?
3 A, 900 kHz, monolithic synchronous step-down regulator IC
pins: 1 VIN_A, 2 EN, 3 VFB, 4 AGND, 5 SYNC, 6 VIN_SW, 7 SW, 8 PGND, 9 PAD

## STBB1
designator DA?
pins: 1 VOUT, 2 SW2, 3 PGND, 4 SW1, 5 VIN, 6 EN, 7 MODE, 8 VINA, 9 GND, 10 FB, 11 PAD

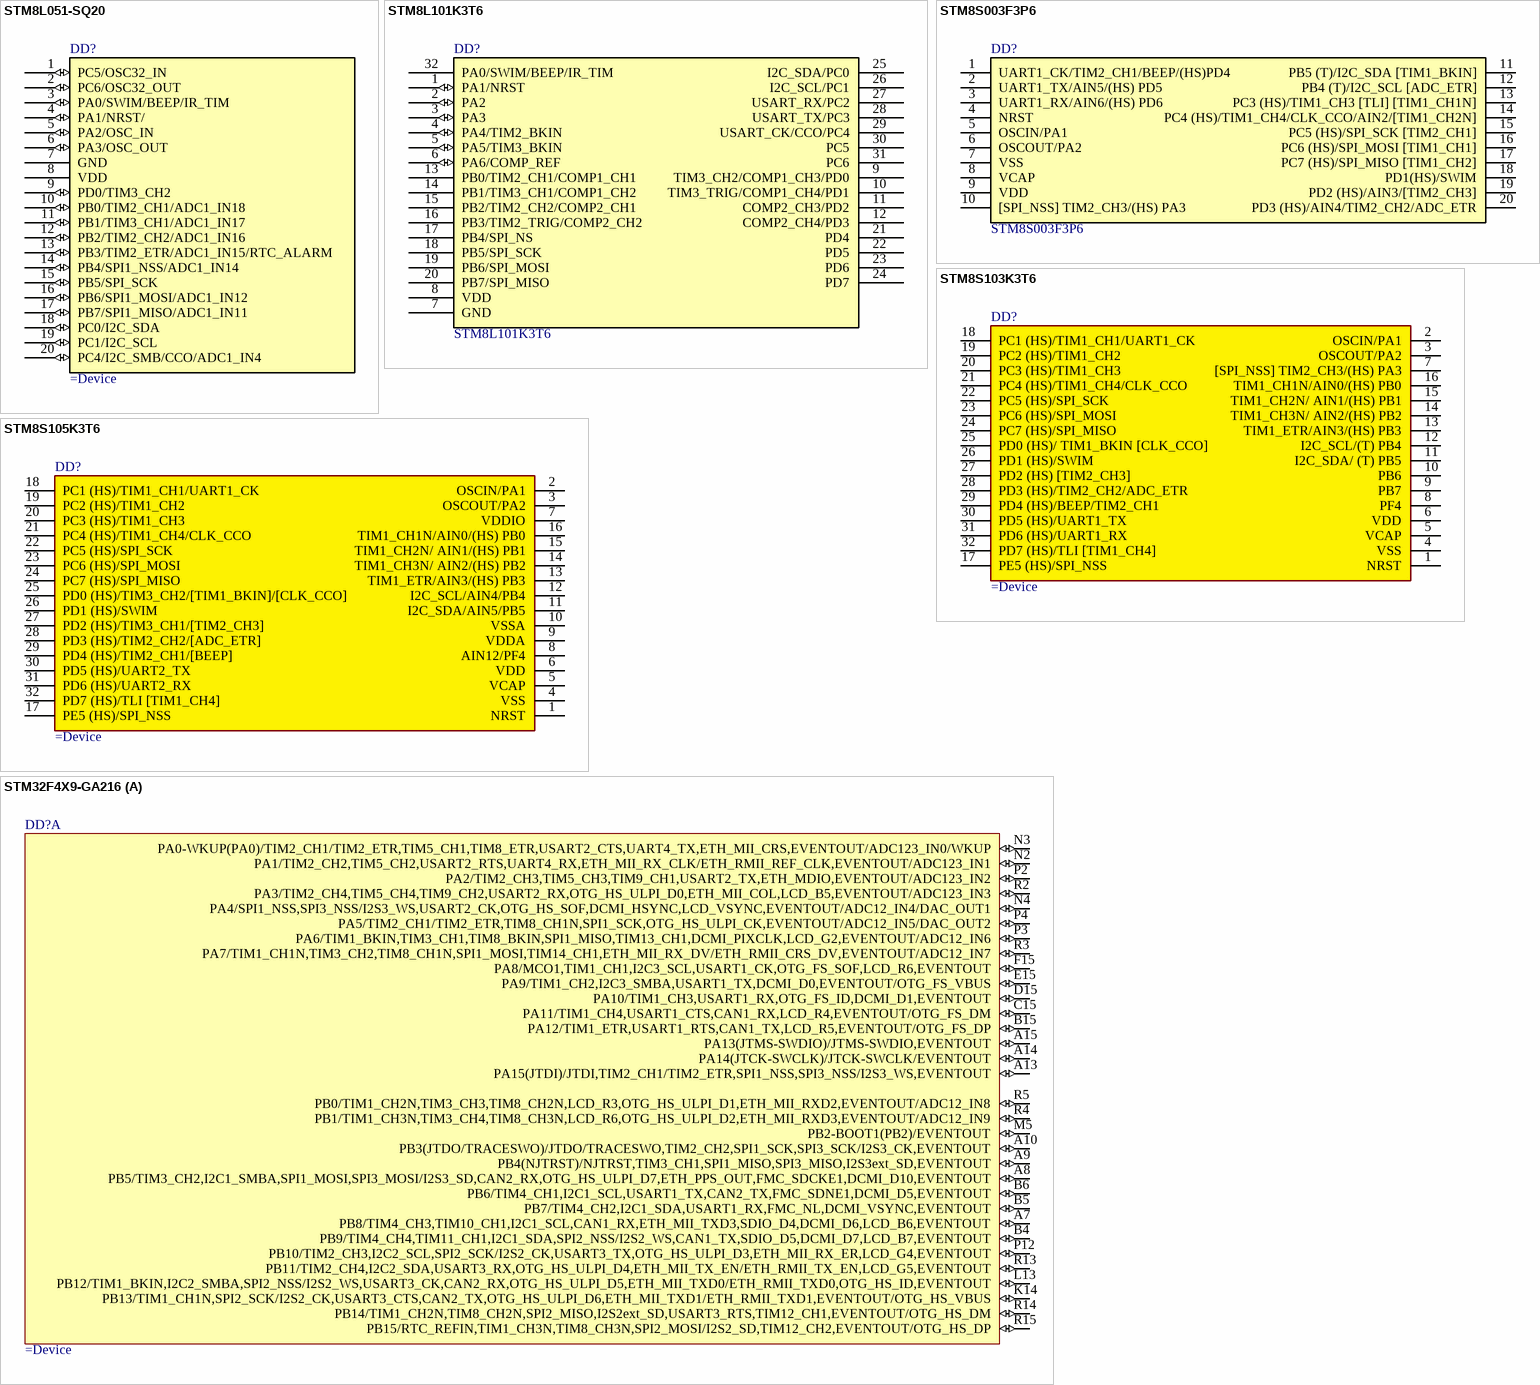
[diagram p3: symbols STM8L051-SQ20 to STM32F4X9-GA216]

## STM8L051-SQ20
designator DD?
pins: 1 PC5/OSC32_IN (io), 2 PC6/OSC32_OUT (io), 3 PA0/SWIM/BEEP/IR_TIM (io), 4 PA1/NRST/ (io), 5 PA2/OSC_IN (io), 6 PA3/OSC_OUT (io), 7 GND, 8 VDD, 9 PD0/TIM3_CH2 (io), 10 PB0/TIM2_CH1/ADC1_IN18 (io), 11 PB1/TIM3_CH1/ADC1_IN17 (io), 12 PB2/TIM2_CH2/ADC1_IN16 (io), 13 PB3/TIM2_ETR/ADC1_IN15/RTC_ALARM (io), 14 PB4/SPI1_NSS/ADC1_IN14 (io), 15 PB5/SPI_SCK (io), 16 PB6/SPI1_MOSI/ADC1_IN12 (io), 17 PB7/SPI1_MISO/ADC1_IN11 (io), 18 PC0/I2C_SDA (io), 19 PC1/I2C_SCL (io), 20 PC4/I2C_SMB/CCO/ADC1_IN4 (io)

## STM8L101K3T6
designator DD?
PartNumber: STM8L101K3T6
footprint TQFP32 (Thin QFP, 32-Leads, Body 7x7mm, Pitch 0.8mm, IPC Low Density)
pins: 1 PA1/NRST (io), 2 PA2 (io), 3 PA3 (io), 4 PA4/TIM2_BKIN (io), 5 PA5/TIM3_BKIN (io), 6 PA6/COMP_REF (io), 7 GND, 8 VDD, 9 TIM3_CH2/COMP1_CH3/PD0, 10 TIM3_TRIG/COMP1_CH4/PD1, 11 COMP2_CH3/PD2, 12 COMP2_CH4/PD3, 13 PB0/TIM2_CH1/COMP1_CH1, 14 PB1/TIM3_CH1/COMP1_CH2, 15 PB2/TIM2_CH2/COMP2_CH1, 16 PB3/TIM2_TRIG/COMP2_CH2, 17 PB4/SPI_NS, 18 PB5/SPI_SCK, 19 PB6/SPI_MOSI, 20 PB7/SPI_MISO, 21 PD4, 22 PD5, 23 PD6, 24 PD7, 25 I2C_SDA/PC0, 26 I2C_SCL/PC1, 27 USART_RX/PC2, 28 USART_TX/PC3, 29 USART_CK/CCO/PC4, 30 PC5, 31 PC6, 32 PA0/SWIM/BEEP/IR_TIM

## STM8S003F3P6
designator DD?, comment PartNumber: STM8S003F3P6  (hidden comment: 8 Bit MCU)
8 Bit MCU (STmicroelectronics)
footprint TSSOP20 (TSOP, 20-Leads, Body 6,6x4,5mm (max), Pitch 0,65mm, IPC Medium Density)
pins: 1 UART1_CK/TIM2_CH1/BEEP/(HS)PD4, 2 UART1_TX/AIN5/(HS) PD5, 3 UART1_RX/AIN6/(HS) PD6, 4 NRST, 5 OSCIN/PA1, 6 OSCOUT/PA2, 7 VSS, 8 VCAP, 9 VDD, 10 [SPI_NSS] TIM2_CH3/(HS) PA3, 11 PB5 (T)/I2C_SDA [TIM1_BKIN], 12 PB4 (T)/I2C_SCL [ADC_ETR], 13 PC3 (HS)/TIM1_CH3 [TLI] [TIM1_CH1N], 14 PC4 (HS)/TIM1_CH4/CLK_CCO/AIN2/[TIM1_CH2N], 15 PC5 (HS)/SPI_SCK [TIM2_CH1], 16 PC6 (HS)/SPI_MOSI [TIM1_CH1], 17 PC7 (HS)/SPI_MISO [TIM1_CH2], 18 PD1(HS)/SWIM, 19 PD2 (HS)/AIN3/[TIM2_CH3], 20 PD3 (HS)/AIN4/TIM2_CH2/ADC_ETR

## STM8S103K3T6
designator DD?
pins: 1 NRST, 2 OSCIN/PA1, 3 OSCOUT/PA2, 4 VSS, 5 VCAP, 6 VDD, 7 [SPI_NSS] TIM2_CH3/(HS) PA3, 8 PF4, 9 PB7, 10 PB6, 11 I2C_SDA/ (T) PB5, 12 I2C_SCL/(T) PB4, 13 TIM1_ETR/AIN3/(HS) PB3, 14 TIM1_CH3N/ AIN2/(HS) PB2, 15 TIM1_CH2N/ AIN1/(HS) PB1, 16 TIM1_CH1N/AIN0/(HS) PB0, 17 PE5 (HS)/SPI_NSS, 18 PC1 (HS)/TIM1_CH1/UART1_CK, 19 PC2 (HS)/TIM1_CH2, 20 PC3 (HS)/TIM1_CH3, 21 PC4 (HS)/TIM1_CH4/CLK_CCO, 22 PC5 (HS)/SPI_SCK, 23 PC6 (HS)/SPI_MOSI, 24 PC7 (HS)/SPI_MISO, 25 PD0 (HS)/ TIM1_BKIN [CLK_CCO], 26 PD1 (HS)/SWIM, 27 PD2 (HS) [TIM2_CH3], 28 PD3 (HS)/TIM2_CH2/ADC_ETR, 29 PD4 (HS)/BEEP/TIM2_CH1, 30 PD5 (HS)/UART1_TX, 31 PD6 (HS)/UART1_RX, 32 PD7 (HS)/TLI [TIM1_CH4]

## STM8S105K3T6
designator DD?
pins: 1 NRST, 2 OSCIN/PA1, 3 OSCOUT/PA2, 4 VSS, 5 VCAP, 6 VDD, 7 VDDIO, 8 AIN12/PF4, 9 VDDA, 10 VSSA, 11 I2C_SDA/AIN5/PB5, 12 I2C_SCL/AIN4/PB4, 13 TIM1_ETR/AIN3/(HS) PB3, 14 TIM1_CH3N/ AIN2/(HS) PB2, 15 TIM1_CH2N/ AIN1/(HS) PB1, 16 TIM1_CH1N/AIN0/(HS) PB0, 17 PE5 (HS)/SPI_NSS, 18 PC1 (HS)/TIM1_CH1/UART1_CK, 19 PC2 (HS)/TIM1_CH2, 20 PC3 (HS)/TIM1_CH3, 21 PC4 (HS)/TIM1_CH4/CLK_CCO, 22 PC5 (HS)/SPI_SCK, 23 PC6 (HS)/SPI_MOSI, 24 PC7 (HS)/SPI_MISO, 25 PD0 (HS)/TIM3_CH2/[TIM1_BKIN]/[CLK_CCO], 26 PD1 (HS)/SWIM, 27 PD2 (HS)/TIM3_CH1/[TIM2_CH3], 28 PD3 (HS)/TIM2_CH2/[ADC_ETR], 29 PD4 (HS)/TIM2_CH1/[BEEP], 30 PD5 (HS)/UART2_TX, 31 PD6 (HS)/UART2_RX, 32 PD7 (HS)/TLI [TIM1_CH4]

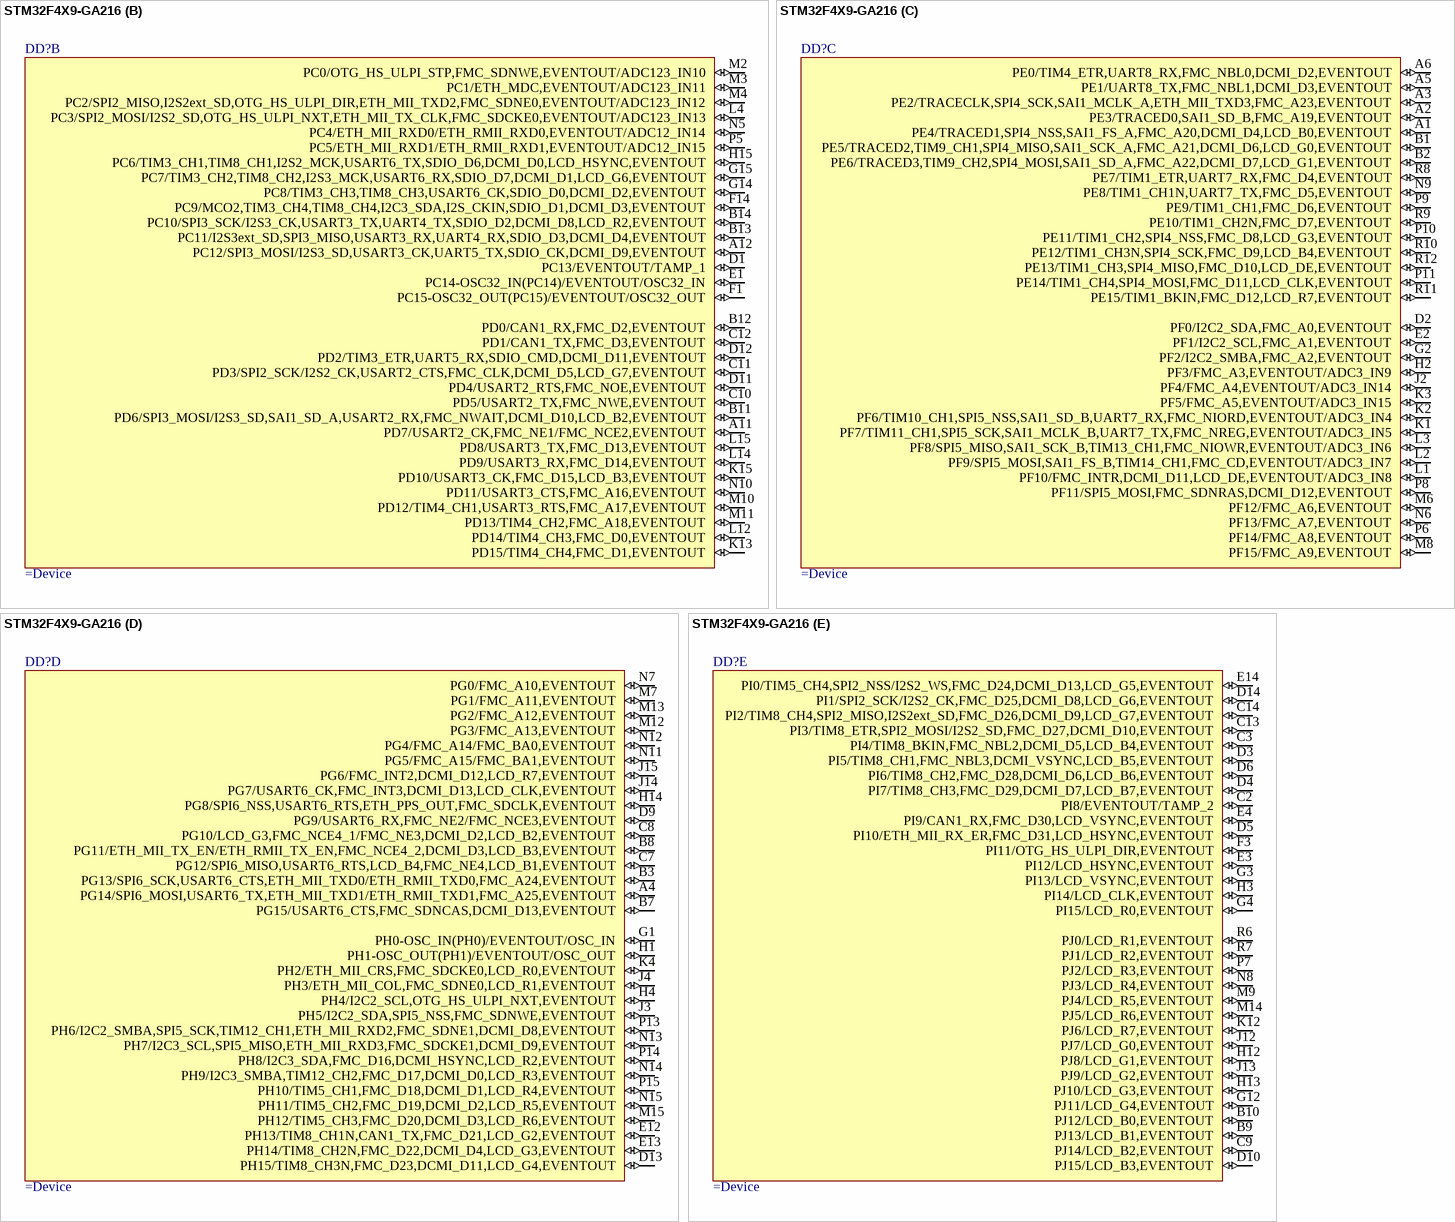
[diagram p4: symbol STM32F4X9-GA216]

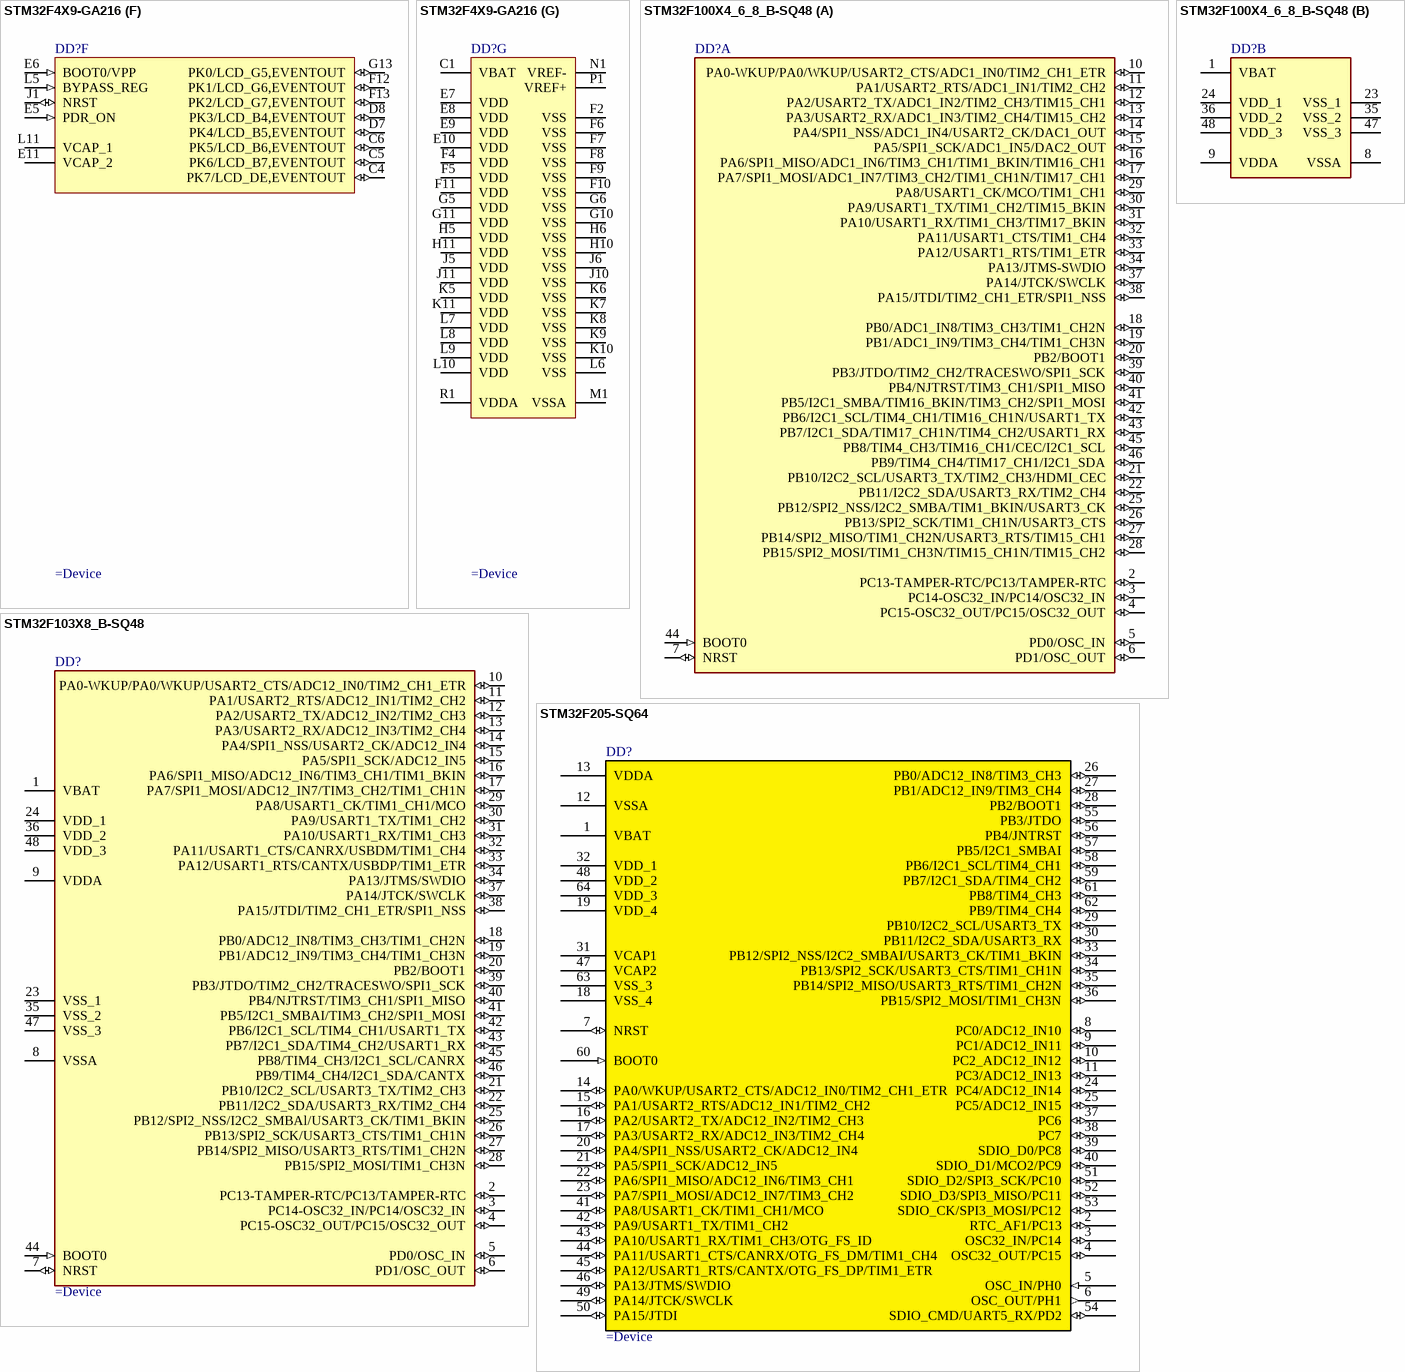
[diagram p5: symbols STM32F4X9-GA216 to STM32F205-SQ64]

## STM32F4X9-GA216
designator DD?
part A pins: A7 PB8/TIM4_CH3,TIM10_CH1,I2C1_SCL,CAN1_RX,ETH_MII_TXD3,SDIO_D4,DCMI_D6,LCD_B6,EVENTOUT (io), A8 PB5/TIM3_CH2,I2C1_SMBA,SPI1_MOSI,SPI3_MOSI/I2S3_SD,CAN2_RX,OTG_HS_ULPI_D7,ETH_PPS_OUT,FMC_SDCKE1,DCMI_D10,EVENTOUT (io), A9 PB4(NJTRST)/NJTRST,TIM3_CH1,SPI1_MISO,SPI3_MISO,I2S3ext_SD,EVENTOUT (io), A10 PB3(JTDO/TRACESWO)/JTDO/TRACESWO,TIM2_CH2,SPI1_SCK,SPI3_SCK/I2S3_CK,EVENTOUT (io), A13 PA15(JTDI)/JTDI,TIM2_CH1/TIM2_ETR,SPI1_NSS,SPI3_NSS/I2S3_WS,EVENTOUT (io), A14 PA14(JTCK-SWCLK)/JTCK-SWCLK/EVENTOUT (io), A15 PA13(JTMS-SWDIO)/JTMS-SWDIO,EVENTOUT (io), B4 PB9/TIM4_CH4,TIM11_CH1,I2C1_SDA,SPI2_NSS/I2S2_WS,CAN1_TX,SDIO_D5,DCMI_D7,LCD_B7,EVENTOUT (io), B5 PB7/TIM4_CH2,I2C1_SDA,USART1_RX,FMC_NL,DCMI_VSYNC,EVENTOUT (io), B6 PB6/TIM4_CH1,I2C1_SCL,USART1_TX,CAN2_TX,FMC_SDNE1,DCMI_D5,EVENTOUT (io), B15 PA12/TIM1_ETR,USART1_RTS,CAN1_TX,LCD_R5,EVENTOUT/OTG_FS_DP (io), C15 PA11/TIM1_CH4,USART1_CTS,CAN1_RX,LCD_R4,EVENTOUT/OTG_FS_DM (io), D15 PA10/TIM1_CH3,USART1_RX,OTG_FS_ID,DCMI_D1,EVENTOUT (io), E15 PA9/TIM1_CH2,I2C3_SMBA,USART1_TX,DCMI_D0,EVENTOUT/OTG_FS_VBUS (io), F15 PA8/MCO1,TIM1_CH1,I2C3_SCL,USART1_CK,OTG_FS_SOF,LCD_R6,EVENTOUT (io), K14 PB13/TIM1_CH1N,SPI2_SCK/I2S2_CK,USART3_CTS,CAN2_TX,OTG_HS_ULPI_D6,ETH_MII_TXD1/ETH_RMII_TXD1,EVENTOUT/OTG_HS_VBUS (io), L13 PB12/TIM1_BKIN,I2C2_SMBA,SPI2_NSS/I2S2_WS,USART3_CK,CAN2_RX,OTG_HS_ULPI_D5,ETH_MII_TXD0/ETH_RMII_TXD0,OTG_HS_ID,EVENTOUT (io), M5 PB2-BOOT1(PB2)/EVENTOUT (io), N2 PA1/TIM2_CH2,TIM5_CH2,USART2_RTS,UART4_RX,ETH_MII_RX_CLK/ETH_RMII_REF_CLK,EVENTOUT/ADC123_IN1 (io), N3 PA0-WKUP(PA0)/TIM2_CH1/TIM2_ETR,TIM5_CH1,TIM8_ETR,USART2_CTS,UART4_TX,ETH_MII_CRS,EVENTOUT/ADC123_IN0/WKUP (io), N4 PA4/SPI1_NSS,SPI3_NSS/I2S3_WS,USART2_CK,OTG_HS_SOF,DCMI_HSYNC,LCD_VSYNC,EVENTOUT/ADC12_IN4/DAC_OUT1 (io), P2 PA2/TIM2_CH3,TIM5_CH3,TIM9_CH1,USART2_TX,ETH_MDIO,EVENTOUT/ADC123_IN2 (io), P3 PA6/TIM1_BKIN,TIM3_CH1,TIM8_BKIN,SPI1_MISO,TIM13_CH1,DCMI_PIXCLK,LCD_G2,EVENTOUT/ADC12_IN6 (io), P4 PA5/TIM2_CH1/TIM2_ETR,TIM8_CH1N,SPI1_SCK,OTG_HS_ULPI_CK,EVENTOUT/ADC12_IN5/DAC_OUT2 (io), P12 PB10/TIM2_CH3,I2C2_SCL,SPI2_SCK/I2S2_CK,USART3_TX,OTG_HS_ULPI_D3,ETH_MII_RX_ER,LCD_G4,EVENTOUT (io), R2 PA3/TIM2_CH4,TIM5_CH4,TIM9_CH2,USART2_RX,OTG_HS_ULPI_D0,ETH_MII_COL,LCD_B5,EVENTOUT/ADC123_IN3 (io), R3 PA7/TIM1_CH1N,TIM3_CH2,TIM8_CH1N,SPI1_MOSI,TIM14_CH1,ETH_MII_RX_DV/ETH_RMII_CRS_DV,EVENTOUT/ADC12_IN7 (io), R4 PB1/TIM1_CH3N,TIM3_CH4,TIM8_CH3N,LCD_R6,OTG_HS_ULPI_D2,ETH_MII_RXD3,EVENTOUT/ADC12_IN9 (io), R5 PB0/TIM1_CH2N,TIM3_CH3,TIM8_CH2N,LCD_R3,OTG_HS_ULPI_D1,ETH_MII_RXD2,EVENTOUT/ADC12_IN8 (io), R13 PB11/TIM2_CH4,I2C2_SDA,USART3_RX,OTG_HS_ULPI_D4,ETH_MII_TX_EN/ETH_RMII_TX_EN,LCD_G5,EVENTOUT (io), R14 PB14/TIM1_CH2N,TIM8_CH2N,SPI2_MISO,I2S2ext_SD,USART3_RTS,TIM12_CH1,EVENTOUT/OTG_HS_DM (io), R15 PB15/RTC_REFIN,TIM1_CH3N,TIM8_CH3N,SPI2_MOSI/I2S2_SD,TIM12_CH2,EVENTOUT/OTG_HS_DP (io)
part B pins: A11 PD7/USART2_CK,FMC_NE1/FMC_NCE2,EVENTOUT (io), A12 PC12/SPI3_MOSI/I2S3_SD,USART3_CK,UART5_TX,SDIO_CK,DCMI_D9,EVENTOUT (io), B11 PD6/SPI3_MOSI/I2S3_SD,SAI1_SD_A,USART2_RX,FMC_NWAIT,DCMI_D10,LCD_B2,EVENTOUT (io), B12 PD0/CAN1_RX,FMC_D2,EVENTOUT (io), B13 PC11/I2S3ext_SD,SPI3_MISO,USART3_RX,UART4_RX,SDIO_D3,DCMI_D4,EVENTOUT (io), B14 PC10/SPI3_SCK/I2S3_CK,USART3_TX,UART4_TX,SDIO_D2,DCMI_D8,LCD_R2,EVENTOUT (io), C10 PD5/USART2_TX,FMC_NWE,EVENTOUT (io), C11 PD3/SPI2_SCK/I2S2_CK,USART2_CTS,FMC_CLK,DCMI_D5,LCD_G7,EVENTOUT (io), C12 PD1/CAN1_TX,FMC_D3,EVENTOUT (io), D1 PC13/EVENTOUT/TAMP_1 (io), D11 PD4/USART2_RTS,FMC_NOE,EVENTOUT (io), D12 PD2/TIM3_ETR,UART5_RX,SDIO_CMD,DCMI_D11,EVENTOUT (io), E1 PC14-OSC32_IN(PC14)/EVENTOUT/OSC32_IN (io), F1 PC15-OSC32_OUT(PC15)/EVENTOUT/OSC32_OUT (io), F14 PC9/MCO2,TIM3_CH4,TIM8_CH4,I2C3_SDA,I2S_CKIN,SDIO_D1,DCMI_D3,EVENTOUT (io), G14 PC8/TIM3_CH3,TIM8_CH3,USART6_CK,SDIO_D0,DCMI_D2,EVENTOUT (io), G15 PC7/TIM3_CH2,TIM8_CH2,I2S3_MCK,USART6_RX,SDIO_D7,DCMI_D1,LCD_G6,EVENTOUT (io), H15 PC6/TIM3_CH1,TIM8_CH1,I2S2_MCK,USART6_TX,SDIO_D6,DCMI_D0,LCD_HSYNC,EVENTOUT (io), K13 PD15/TIM4_CH4,FMC_D1,EVENTOUT (io), K15 PD10/USART3_CK,FMC_D15,LCD_B3,EVENTOUT (io), L4 PC3/SPI2_MOSI/I2S2_SD,OTG_HS_ULPI_NXT,ETH_MII_TX_CLK,FMC_SDCKE0,EVENTOUT/ADC123_IN13 (io), L12 PD14/TIM4_CH3,FMC_D0,EVENTOUT (io), L14 PD9/USART3_RX,FMC_D14,EVENTOUT (io), L15 PD8/USART3_TX,FMC_D13,EVENTOUT (io), M2 PC0/OTG_HS_ULPI_STP,FMC_SDNWE,EVENTOUT/ADC123_IN10 (io), M3 PC1/ETH_MDC,EVENTOUT/ADC123_IN11 (io), M4 PC2/SPI2_MISO,I2S2ext_SD,OTG_HS_ULPI_DIR,ETH_MII_TXD2,FMC_SDNE0,EVENTOUT/ADC123_IN12 (io), M10 PD12/TIM4_CH1,USART3_RTS,FMC_A17,EVENTOUT (io), M11 PD13/TIM4_CH2,FMC_A18,EVENTOUT (io), N5 PC4/ETH_MII_RXD0/ETH_RMII_RXD0,EVENTOUT/ADC12_IN14 (io), N10 PD11/USART3_CTS,FMC_A16,EVENTOUT (io), P5 PC5/ETH_MII_RXD1/ETH_RMII_RXD1,EVENTOUT/ADC12_IN15 (io)
part C pins: A1 PE4/TRACED1,SPI4_NSS,SAI1_FS_A,FMC_A20,DCMI_D4,LCD_B0,EVENTOUT (io), A2 PE3/TRACED0,SAI1_SD_B,FMC_A19,EVENTOUT (io), A3 PE2/TRACECLK,SPI4_SCK,SAI1_MCLK_A,ETH_MII_TXD3,FMC_A23,EVENTOUT (io), A5 PE1/UART8_TX,FMC_NBL1,DCMI_D3,EVENTOUT (io), A6 PE0/TIM4_ETR,UART8_RX,FMC_NBL0,DCMI_D2,EVENTOUT (io), B1 PE5/TRACED2,TIM9_CH1,SPI4_MISO,SAI1_SCK_A,FMC_A21,DCMI_D6,LCD_G0,EVENTOUT (io), B2 PE6/TRACED3,TIM9_CH2,SPI4_MOSI,SAI1_SD_A,FMC_A22,DCMI_D7,LCD_G1,EVENTOUT (io), D2 PF0/I2C2_SDA,FMC_A0,EVENTOUT (io), E2 PF1/I2C2_SCL,FMC_A1,EVENTOUT (io), G2 PF2/I2C2_SMBA,FMC_A2,EVENTOUT (io), H2 PF3/FMC_A3,EVENTOUT/ADC3_IN9 (io), J2 PF4/FMC_A4,EVENTOUT/ADC3_IN14 (io), K1 PF7/TIM11_CH1,SPI5_SCK,SAI1_MCLK_B,UART7_TX,FMC_NREG,EVENTOUT/ADC3_IN5 (io), K2 PF6/TIM10_CH1,SPI5_NSS,SAI1_SD_B,UART7_RX,FMC_NIORD,EVENTOUT/ADC3_IN4 (io), K3 PF5/FMC_A5,EVENTOUT/ADC3_IN15 (io), L1 PF10/FMC_INTR,DCMI_D11,LCD_DE,EVENTOUT/ADC3_IN8 (io), L2 PF9/SPI5_MOSI,SAI1_FS_B,TIM14_CH1,FMC_CD,EVENTOUT/ADC3_IN7 (io), L3 PF8/SPI5_MISO,SAI1_SCK_B,TIM13_CH1,FMC_NIOWR,EVENTOUT/ADC3_IN6 (io), M6 PF12/FMC_A6,EVENTOUT (io), M8 PF15/FMC_A9,EVENTOUT (io), N6 PF13/FMC_A7,EVENTOUT (io), N9 PE8/TIM1_CH1N,UART7_TX,FMC_D5,EVENTOUT (io), P6 PF14/FMC_A8,EVENTOUT (io), P8 PF11/SPI5_MOSI,FMC_SDNRAS,DCMI_D12,EVENTOUT (io), P9 PE9/TIM1_CH1,FMC_D6,EVENTOUT (io), P10 PE11/TIM1_CH2,SPI4_NSS,FMC_D8,LCD_G3,EVENTOUT (io), P11 PE14/TIM1_CH4,SPI4_MOSI,FMC_D11,LCD_CLK,EVENTOUT (io), R8 PE7/TIM1_ETR,UART7_RX,FMC_D4,EVENTOUT (io), R9 PE10/TIM1_CH2N,FMC_D7,EVENTOUT (io), R10 PE12/TIM1_CH3N,SPI4_SCK,FMC_D9,LCD_B4,EVENTOUT (io), R11 PE15/TIM1_BKIN,FMC_D12,LCD_R7,EVENTOUT (io), R12 PE13/TIM1_CH3,SPI4_MISO,FMC_D10,LCD_DE,EVENTOUT (io)
part D pins: A4 PG14/SPI6_MOSI,USART6_TX,ETH_MII_TXD1/ETH_RMII_TXD1,FMC_A25,EVENTOUT (io), B3 PG13/SPI6_SCK,USART6_CTS,ETH_MII_TXD0/ETH_RMII_TXD0,FMC_A24,EVENTOUT (io), B7 PG15/USART6_CTS,FMC_SDNCAS,DCMI_D13,EVENTOUT (io), B8 PG11/ETH_MII_TX_EN/ETH_RMII_TX_EN,FMC_NCE4_2,DCMI_D3,LCD_B3,EVENTOUT (io), C7 PG12/SPI6_MISO,USART6_RTS,LCD_B4,FMC_NE4,LCD_B1,EVENTOUT (io), C8 PG10/LCD_G3,FMC_NCE4_1/FMC_NE3,DCMI_D2,LCD_B2,EVENTOUT (io), D9 PG9/USART6_RX,FMC_NE2/FMC_NCE3,EVENTOUT (io), D13 PH15/TIM8_CH3N,FMC_D23,DCMI_D11,LCD_G4,EVENTOUT (io), E12 PH13/TIM8_CH1N,CAN1_TX,FMC_D21,LCD_G2,EVENTOUT (io), E13 PH14/TIM8_CH2N,FMC_D22,DCMI_D4,LCD_G3,EVENTOUT (io), G1 PH0-OSC_IN(PH0)/EVENTOUT/OSC_IN (io), H1 PH1-OSC_OUT(PH1)/EVENTOUT/OSC_OUT (io), H4 PH4/I2C2_SCL,OTG_HS_ULPI_NXT,EVENTOUT (io), H14 PG8/SPI6_NSS,USART6_RTS,ETH_PPS_OUT,FMC_SDCLK,EVENTOUT (io), J3 PH5/I2C2_SDA,SPI5_NSS,FMC_SDNWE,EVENTOUT (io), J4 PH3/ETH_MII_COL,FMC_SDNE0,LCD_R1,EVENTOUT (io), J14 PG7/USART6_CK,FMC_INT3,DCMI_D13,LCD_CLK,EVENTOUT (io), J15 PG6/FMC_INT2,DCMI_D12,LCD_R7,EVENTOUT (io), K4 PH2/ETH_MII_CRS,FMC_SDCKE0,LCD_R0,EVENTOUT (io), M7 PG1/FMC_A11,EVENTOUT (io), M12 PG3/FMC_A13,EVENTOUT (io), M13 PG2/FMC_A12,EVENTOUT (io), M15 PH12/TIM5_CH3,FMC_D20,DCMI_D3,LCD_R6,EVENTOUT (io), N7 PG0/FMC_A10,EVENTOUT (io), N11 PG5/FMC_A15/FMC_BA1,EVENTOUT (io), N12 PG4/FMC_A14/FMC_BA0,EVENTOUT (io), N13 PH7/I2C3_SCL,SPI5_MISO,ETH_MII_RXD3,FMC_SDCKE1,DCMI_D9,EVENTOUT (io), N14 PH9/I2C3_SMBA,TIM12_CH2,FMC_D17,DCMI_D0,LCD_R3,EVENTOUT (io), N15 PH11/TIM5_CH2,FMC_D19,DCMI_D2,LCD_R5,EVENTOUT (io), P13 PH6/I2C2_SMBA,SPI5_SCK,TIM12_CH1,ETH_MII_RXD2,FMC_SDNE1,DCMI_D8,EVENTOUT (io), P14 PH8/I2C3_SDA,FMC_D16,DCMI_HSYNC,LCD_R2,EVENTOUT (io), P15 PH10/TIM5_CH1,FMC_D18,DCMI_D1,LCD_R4,EVENTOUT (io)
part E pins: B9 PJ13/LCD_B1,EVENTOUT (io), B10 PJ12/LCD_B0,EVENTOUT (io), C2 PI8/EVENTOUT/TAMP_2 (io), C3 PI4/TIM8_BKIN,FMC_NBL2,DCMI_D5,LCD_B4,EVENTOUT (io), C9 PJ14/LCD_B2,EVENTOUT (io), C13 PI3/TIM8_ETR,SPI2_MOSI/I2S2_SD,FMC_D27,DCMI_D10,EVENTOUT (io), C14 PI2/TIM8_CH4,SPI2_MISO,I2S2ext_SD,FMC_D26,DCMI_D9,LCD_G7,EVENTOUT (io), D3 PI5/TIM8_CH1,FMC_NBL3,DCMI_VSYNC,LCD_B5,EVENTOUT (io), D4 PI7/TIM8_CH3,FMC_D29,DCMI_D7,LCD_B7,EVENTOUT (io), D5 PI10/ETH_MII_RX_ER,FMC_D31,LCD_HSYNC,EVENTOUT (io), D6 PI6/TIM8_CH2,FMC_D28,DCMI_D6,LCD_B6,EVENTOUT (io), D10 PJ15/LCD_B3,EVENTOUT (io), D14 PI1/SPI2_SCK/I2S2_CK,FMC_D25,DCMI_D8,LCD_G6,EVENTOUT (io), E3 PI12/LCD_HSYNC,EVENTOUT (io), E4 PI9/CAN1_RX,FMC_D30,LCD_VSYNC,EVENTOUT (io), E14 PI0/TIM5_CH4,SPI2_NSS/I2S2_WS,FMC_D24,DCMI_D13,LCD_G5,EVENTOUT (io), F3 PI11/OTG_HS_ULPI_DIR,EVENTOUT (io), G3 PI13/LCD_VSYNC,EVENTOUT (io), G4 PI15/LCD_R0,EVENTOUT (io), G12 PJ11/LCD_G4,EVENTOUT (io), H3 PI14/LCD_CLK,EVENTOUT (io), H12 PJ8/LCD_G1,EVENTOUT (io), H13 PJ10/LCD_G3,EVENTOUT (io), J12 PJ7/LCD_G0,EVENTOUT (io), J13 PJ9/LCD_G2,EVENTOUT (io), K12 PJ6/LCD_R7,EVENTOUT (io), M9 PJ4/LCD_R5,EVENTOUT (io), M14 PJ5/LCD_R6,EVENTOUT (io), N8 PJ3/LCD_R4,EVENTOUT (io), P7 PJ2/LCD_R3,EVENTOUT (io), R6 PJ0/LCD_R1,EVENTOUT (io), R7 PJ1/LCD_R2,EVENTOUT (io)
part F pins: C4 PK7/LCD_DE,EVENTOUT (io), C5 PK6/LCD_B7,EVENTOUT (io), C6 PK5/LCD_B6,EVENTOUT (io), D7 PK4/LCD_B5,EVENTOUT (io), D8 PK3/LCD_B4,EVENTOUT (io), E5 PDR_ON (in), E6 BOOT0/VPP (in), E11 VCAP_2 (power), F12 PK1/LCD_G6,EVENTOUT (io), F13 PK2/LCD_G7,EVENTOUT (io), G13 PK0/LCD_G5,EVENTOUT (io), J1 NRST (io), L5 BYPASS_REG (in), L11 VCAP_1 (power)
part G pins: C1 VBAT (power), E7 VDD (power), E8 VDD (power), E9 VDD (power), E10 VDD (power), F2 VSS (power), F4 VDD (power), F5 VDD (power), F6 VSS (power), F7 VSS (power), F8 VSS (power), F9 VSS (power), F10 VSS (power), F11 VDD (power), G5 VDD (power), G6 VSS (power), G10 VSS (power), G11 VDD (power), H5 VDD (power), H6 VSS (power), H10 VSS (power), H11 VDD (power), J5 VDD (power), J6 VSS (power), J10 VSS (power), J11 VDD (power), K5 VDD (power), K6 VSS (power), K7 VSS (power), K8 VSS (power), K9 VSS (power), K10 VSS (power), K11 VDD (power), L6 VSS (power), L7 VDD (power), L8 VDD (power), L9 VDD (power), L10 VDD (power), M1 VSSA (power), N1 VREF- (power), P1 VREF+ (power), R1 VDDA (power)

## STM32F100X4_6_8_B-SQ48
designator DD?
part A pins: 2 PC13-TAMPER-RTC/PC13/TAMPER-RTC (io), 3 PC14-OSC32_IN/PC14/OSC32_IN (io), 4 PC15-OSC32_OUT/PC15/OSC32_OUT (io), 5 PD0/OSC_IN (io), 6 PD1/OSC_OUT (io), 7 NRST (io), 10 PA0-WKUP/PA0/WKUP/USART2_CTS/ADC1_IN0/TIM2_CH1_ETR (io), 11 PA1/USART2_RTS/ADC1_IN1/TIM2_CH2 (io), 12 PA2/USART2_TX/ADC1_IN2/TIM2_CH3/TIM15_CH1 (io), 13 PA3/USART2_RX/ADC1_IN3/TIM2_CH4/TIM15_CH2 (io), 14 PA4/SPI1_NSS/ADC1_IN4/USART2_CK/DAC1_OUT (io), 15 PA5/SPI1_SCK/ADC1_IN5/DAC2_OUT (io), 16 PA6/SPI1_MISO/ADC1_IN6/TIM3_CH1/TIM1_BKIN/TIM16_CH1 (io), 17 PA7/SPI1_MOSI/ADC1_IN7/TIM3_CH2/TIM1_CH1N/TIM17_CH1 (io), 18 PB0/ADC1_IN8/TIM3_CH3/TIM1_CH2N (io), 19 PB1/ADC1_IN9/TIM3_CH4/TIM1_CH3N (io), 20 PB2/BOOT1 (io), 21 PB10/I2C2_SCL/USART3_TX/TIM2_CH3/HDMI_CEC (io), 22 PB11/I2C2_SDA/USART3_RX/TIM2_CH4 (io), 25 PB12/SPI2_NSS/I2C2_SMBA/TIM1_BKIN/USART3_CK (io), 26 PB13/SPI2_SCK/TIM1_CH1N/USART3_CTS (io), 27 PB14/SPI2_MISO/TIM1_CH2N/USART3_RTS/TIM15_CH1 (io), 28 PB15/SPI2_MOSI/TIM1_CH3N/TIM15_CH1N/TIM15_CH2 (io), 29 PA8/USART1_CK/MCO/TIM1_CH1 (io), 30 PA9/USART1_TX/TIM1_CH2/TIM15_BKIN (io), 31 PA10/USART1_RX/TIM1_CH3/TIM17_BKIN (io), 32 PA11/USART1_CTS/TIM1_CH4 (io), 33 PA12/USART1_RTS/TIM1_ETR (io), 34 PA13/JTMS-SWDIO (io), 37 PA14/JTCK/SWCLK (io), 38 PA15/JTDI/TIM2_CH1_ETR/SPI1_NSS (io), 39 PB3/JTDO/TIM2_CH2/TRACESWO/SPI1_SCK (io), 40 PB4/NJTRST/TIM3_CH1/SPI1_MISO (io), 41 PB5/I2C1_SMBA/TIM16_BKIN/TIM3_CH2/SPI1_MOSI (io), 42 PB6/I2C1_SCL/TIM4_CH1/TIM16_CH1N/USART1_TX (io), 43 PB7/I2C1_SDA/TIM17_CH1N/TIM4_CH2/USART1_RX (io), 44 BOOT0 (in), 45 PB8/TIM4_CH3/TIM16_CH1/CEC/I2C1_SCL (io), 46 PB9/TIM4_CH4/TIM17_CH1/I2C1_SDA (io)
part B pins: 1 VBAT (power), 8 VSSA (power), 9 VDDA (power), 23 VSS_1 (power), 24 VDD_1 (power), 35 VSS_2 (power), 36 VDD_2 (power), 47 VSS_3 (power), 48 VDD_3 (power)

## STM32F103X8_B-SQ48
designator DD?
pins: 1 VBAT (power), 2 PC13-TAMPER-RTC/PC13/TAMPER-RTC (io), 3 PC14-OSC32_IN/PC14/OSC32_IN (io), 4 PC15-OSC32_OUT/PC15/OSC32_OUT (io), 5 PD0/OSC_IN (io), 6 PD1/OSC_OUT (io), 7 NRST (io), 8 VSSA (power), 9 VDDA (power), 10 PA0-WKUP/PA0/WKUP/USART2_CTS/ADC12_IN0/TIM2_CH1_ETR (io), 11 PA1/USART2_RTS/ADC12_IN1/TIM2_CH2 (io), 12 PA2/USART2_TX/ADC12_IN2/TIM2_CH3 (io), 13 PA3/USART2_RX/ADC12_IN3/TIM2_CH4 (io), 14 PA4/SPI1_NSS/USART2_CK/ADC12_IN4 (io), 15 PA5/SPI1_SCK/ADC12_IN5 (io), 16 PA6/SPI1_MISO/ADC12_IN6/TIM3_CH1/TIM1_BKIN (io), 17 PA7/SPI1_MOSI/ADC12_IN7/TIM3_CH2/TIM1_CH1N (io), 18 PB0/ADC12_IN8/TIM3_CH3/TIM1_CH2N (io), 19 PB1/ADC12_IN9/TIM3_CH4/TIM1_CH3N (io), 20 PB2/BOOT1 (io), 21 PB10/I2C2_SCL/USART3_TX/TIM2_CH3 (io), 22 PB11/I2C2_SDA/USART3_RX/TIM2_CH4 (io), 23 VSS_1 (power), 24 VDD_1 (power), 25 PB12/SPI2_NSS/I2C2_SMBAl/USART3_CK/TIM1_BKIN (io), 26 PB13/SPI2_SCK/USART3_CTS/TIM1_CH1N (io), 27 PB14/SPI2_MISO/USART3_RTS/TIM1_CH2N (io), 28 PB15/SPI2_MOSI/TIM1_CH3N (io), 29 PA8/USART1_CK/TIM1_CH1/MCO (io), 30 PA9/USART1_TX/TIM1_CH2 (io), 31 PA10/USART1_RX/TIM1_CH3 (io), 32 PA11/USART1_CTS/CANRX/USBDM/TIM1_CH4 (io), 33 PA12/USART1_RTS/CANTX/USBDP/TIM1_ETR (io), 34 PA13/JTMS/SWDIO (io), 35 VSS_2 (power), 36 VDD_2 (power), 37 PA14/JTCK/SWCLK (io), 38 PA15/JTDI/TIM2_CH1_ETR/SPI1_NSS (io), 39 PB3/JTDO/TIM2_CH2/TRACESWO/SPI1_SCK (io), 40 PB4/NJTRST/TIM3_CH1/SPI1_MISO (io), 41 PB5/I2C1_SMBAI/TIM3_CH2/SPI1_MOSI (io), 42 PB6/I2C1_SCL/TIM4_CH1/USART1_TX (io), 43 PB7/I2C1_SDA/TIM4_CH2/USART1_RX (io), 44 BOOT0 (in), 45 PB8/TIM4_CH3/I2C1_SCL/CANRX (io), 46 PB9/TIM4_CH4/I2C1_SDA/CANTX (io), 47 VSS_3 (power), 48 VDD_3 (power)

## STM32F205-SQ64
designator DD?
STM32 ARM-based 32-bit MCU with 128 Kbytes Flash, 64-pin LQFP, Industrial Temperature
pins: 1 VBAT (power), 2 RTC_AF1/PC13 (io), 3 OSC32_IN/PC14 (io), 4 OSC32_OUT/PC15 (io), 5 OSC_IN/PH0 (in), 6 OSC_OUT/PH1 (out), 7 NRST (io), 8 PC0/ADC12_IN10 (io), 9 PC1/ADC12_IN11 (io), 10 PC2_ADC12_IN12 (io), 11 PC3/ADC12_IN13 (io), 12 VSSA (power), 13 VDDA (power), 14 PA0/WKUP/USART2_CTS/ADC12_IN0/TIM2_CH1_ETR (io), 15 PA1/USART2_RTS/ADC12_IN1/TIM2_CH2 (io), 16 PA2/USART2_TX/ADC12_IN2/TIM2_CH3 (io), 17 PA3/USART2_RX/ADC12_IN3/TIM2_CH4 (io), 18 VSS_4 (power), 19 VDD_4 (power), 20 PA4/SPI1_NSS/USART2_CK/ADC12_IN4 (io), 21 PA5/SPI1_SCK/ADC12_IN5 (io), 22 PA6/SPI1_MISO/ADC12_IN6/TIM3_CH1 (io), 23 PA7/SPI1_MOSI/ADC12_IN7/TIM3_CH2 (io), 24 PC4/ADC12_IN14 (io), 25 PC5/ADC12_IN15 (io), 26 PB0/ADC12_IN8/TIM3_CH3 (io), 27 PB1/ADC12_IN9/TIM3_CH4 (io), 28 PB2/BOOT1 (io), 29 PB10/I2C2_SCL/USART3_TX (io), 30 PB11/I2C2_SDA/USART3_RX (io), 31 VCAP1 (power), 32 VDD_1 (power), 33 PB12/SPI2_NSS/I2C2_SMBAI/USART3_CK/TIM1_BKIN (io), 34 PB13/SPI2_SCK/USART3_CTS/TIM1_CH1N (io), 35 PB14/SPI2_MISO/USART3_RTS/TIM1_CH2N (io), 36 PB15/SPI2_MOSI/TIM1_CH3N (io), 37 PC6 (io), 38 PC7 (io), 39 SDIO_D0/PC8 (io), 40 SDIO_D1/MCO2/PC9 (io), 41 PA8/USART1_CK/TIM1_CH1/MCO (io), 42 PA9/USART1_TX/TIM1_CH2 (io), 43 PA10/USART1_RX/TIM1_CH3/OTG_FS_ID (io), 44 PA11/USART1_CTS/CANRX/OTG_FS_DM/TIM1_CH4 (io), 45 PA12/USART1_RTS/CANTX/OTG_FS_DP/TIM1_ETR (io), 46 PA13/JTMS/SWDIO (io), 47 VCAP2 (power), 48 VDD_2 (power), 49 PA14/JTCK/SWCLK (io), 50 PA15/JTDI (io), 51 SDIO_D2/SPI3_SCK/PC10 (io), 52 SDIO_D3/SPI3_MISO/PC11 (io), 53 SDIO_CK/SPI3_MOSI/PC12 (io), 54 SDIO_CMD/UART5_RX/PD2 (io), 55 PB3/JTDO (io), 56 PB4/JNTRST (io), 57 PB5/I2C1_SMBAI (io), 58 PB6/I2C1_SCL/TIM4_CH1 (io), 59 PB7/I2C1_SDA/TIM4_CH2 (io), 60 BOOT0 (in), 61 PB8/TIM4_CH3 (io), 62 PB9/TIM4_CH4 (io), 63 VSS_3 (power), 64 VDD_3 (power)

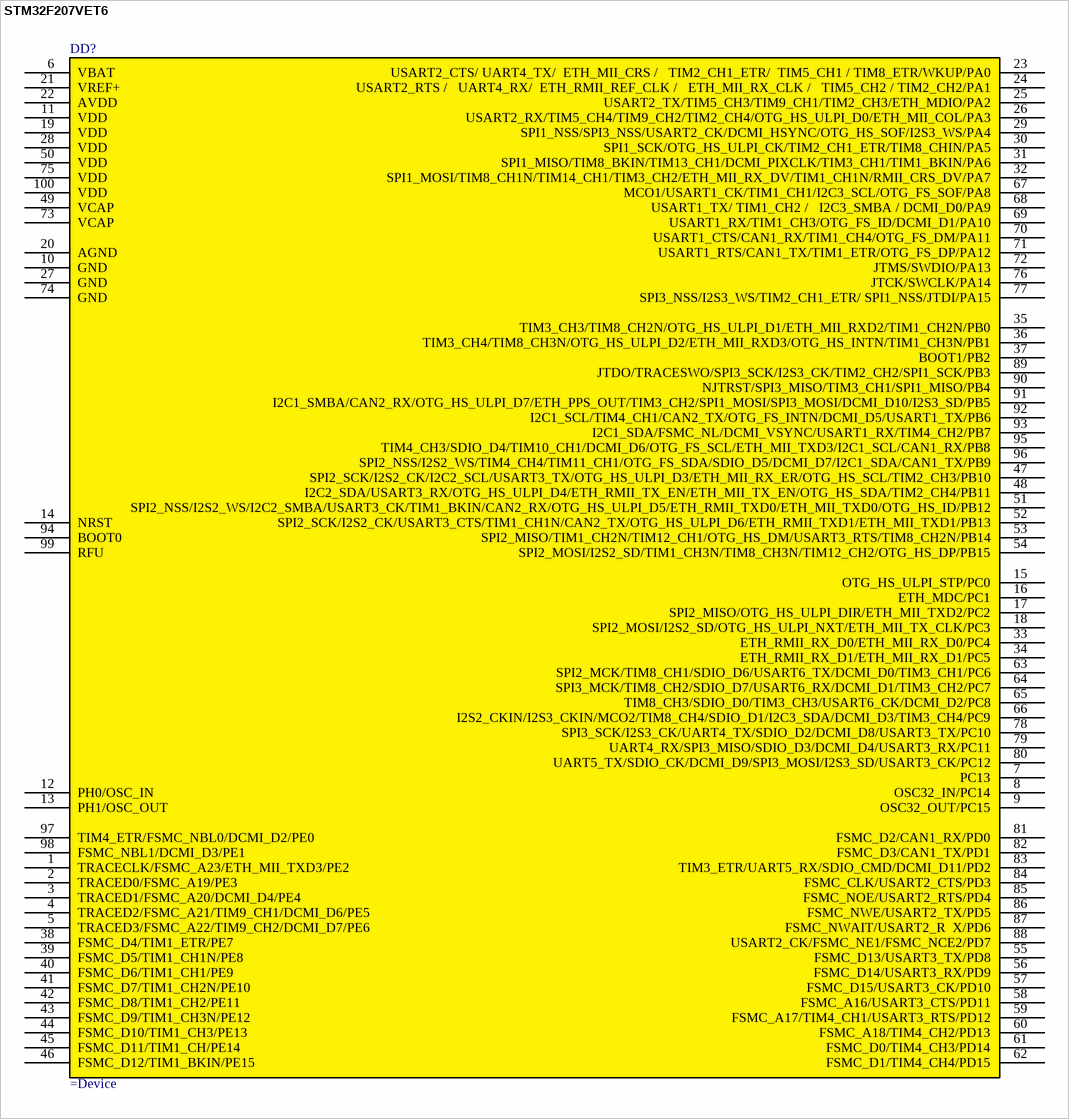
[diagram p6: symbol STM32F207VET6]

## STM32F207VET6
designator DD?
pins: 1 TRACECLK/FSMC_A23/ETH_MII_TXD3/PE2, 2 TRACED0/FSMC_A19/PE3, 3 TRACED1/FSMC_A20/DCMI_D4/PE4, 4 TRACED2/FSMC_A21/TIM9_CH1/DCMI_D6/PE5, 5 TRACED3/FSMC_A22/TIM9_CH2/DCMI_D7/PE6, 6 VBAT, 7 PC13, 8 OSC32_IN/PC14, 9 OSC32_OUT/PC15, 10 GND, 11 VDD, 12 PH0/OSC_IN, 13 PH1/OSC_OUT, 14 NRST, 15 OTG_HS_ULPI_STP/PC0, 16 ETH_MDC/PC1, 17 SPI2_MISO/OTG_HS_ULPI_DIR/ETH_MII_TXD2/PC2, 18 SPI2_MOSI/I2S2_SD/OTG_HS_ULPI_NXT/ETH_MII_TX_CLK/PC3, 19 VDD, 20 AGND, 21 VREF+, 22 AVDD, 23 USART2_CTS/ UART4_TX/  ETH_MII_CRS /   TIM2_CH1_ETR/  TIM5_CH1 / TIM8_ETR/WKUP/PA0, 24 USART2_RTS /   UART4_RX/  ETH_RMII_REF_CLK /   ETH_MII_RX_CLK /   TIM5_CH2 / TIM2_CH2/PA1, 25 USART2_TX/TIM5_CH3/TIM9_CH1/TIM2_CH3/ETH_MDIO/PA2, 26 USART2_RX/TIM5_CH4/TIM9_CH2/TIM2_CH4/OTG_HS_ULPI_D0/ETH_MII_COL/PA3, 27 GND, 28 VDD, 29 SPI1_NSS/SPI3_NSS/USART2_CK/DCMI_HSYNC/OTG_HS_SOF/I2S3_WS/PA4, 30 SPI1_SCK/OTG_HS_ULPI_CK/TIM2_CH1_ETR/TIM8_CHIN/PA5, 31 SPI1_MISO/TIM8_BKIN/TIM13_CH1/DCMI_PIXCLK/TIM3_CH1/TIM1_BKIN/PA6, 32 SPI1_MOSI/TIM8_CH1N/TIM14_CH1/TIM3_CH2/ETH_MII_RX_DV/TIM1_CH1N/RMII_CRS_DV/PA7, 33 ETH_RMII_RX_D0/ETH_MII_RX_D0/PC4, 34 ETH_RMII_RX_D1/ETH_MII_RX_D1/PC5, 35 TIM3_CH3/TIM8_CH2N/OTG_HS_ULPI_D1/ETH_MII_RXD2/TIM1_CH2N/PB0, 36 TIM3_CH4/TIM8_CH3N/OTG_HS_ULPI_D2/ETH_MII_RXD3/OTG_HS_INTN/TIM1_CH3N/PB1, 37 BOOT1/PB2, 38 FSMC_D4/TIM1_ETR/PE7, 39 FSMC_D5/TIM1_CH1N/PE8, 40 FSMC_D6/TIM1_CH1/PE9, 41 FSMC_D7/TIM1_CH2N/PE10, 42 FSMC_D8/TIM1_CH2/PE11, 43 FSMC_D9/TIM1_CH3N/PE12, 44 FSMC_D10/TIM1_CH3/PE13, 45 FSMC_D11/TIM1_CH/PE14, 46 FSMC_D12/TIM1_BKIN/PE15, 47 SPI2_SCK/I2S2_CK/I2C2_SCL/USART3_TX/OTG_HS_ULPI_D3/ETH_MII_RX_ER/OTG_HS_SCL/TIM2_CH3/PB10, 48 I2C2_SDA/USART3_RX/OTG_HS_ULPI_D4/ETH_RMII_TX_EN/ETH_MII_TX_EN/OTG_HS_SDA/TIM2_CH4/PB11, 49 VCAP, 50 VDD, 51 SPI2_NSS/I2S2_WS/I2C2_SMBA/USART3_CK/TIM1_BKIN/CAN2_RX/OTG_HS_ULPI_D5/ETH_RMII_TXD0/ETH_MII_TXD0/OTG_HS_ID/PB12, 52 SPI2_SCK/I2S2_CK/USART3_CTS/TIM1_CH1N/CAN2_TX/OTG_HS_ULPI_D6/ETH_RMII_TXD1/ETH_MII_TXD1/PB13, 53 SPI2_MISO/TIM1_CH2N/TIM12_CH1/OTG_HS_DM/USART3_RTS/TIM8_CH2N/PB14, 54 SPI2_MOSI/I2S2_SD/TIM1_CH3N/TIM8_CH3N/TIM12_CH2/OTG_HS_DP/PB15, 55 FSMC_D13/USART3_TX/PD8, 56 FSMC_D14/USART3_RX/PD9, 57 FSMC_D15/USART3_CK/PD10, 58 FSMC_A16/USART3_CTS/PD11, 59 FSMC_A17/TIM4_CH1/USART3_RTS/PD12, 60 FSMC_A18/TIM4_CH2/PD13, 61 FSMC_D0/TIM4_CH3/PD14, 62 FSMC_D1/TIM4_CH4/PD15, 63 SPI2_MCK/TIM8_CH1/SDIO_D6/USART6_TX/DCMI_D0/TIM3_CH1/PC6, 64 SPI3_MCK/TIM8_CH2/SDIO_D7/USART6_RX/DCMI_D1/TIM3_CH2/PC7, 65 TIM8_CH3/SDIO_D0/TIM3_CH3/USART6_CK/DCMI_D2/PC8, 66 I2S2_CKIN/I2S3_CKIN/MCO2/TIM8_CH4/SDIO_D1/I2C3_SDA/DCMI_D3/TIM3_CH4/PC9, 67 MCO1/USART1_CK/TIM1_CH1/I2C3_SCL/OTG_FS_SOF/PA8, 68 USART1_TX/ TIM1_CH2 /   I2C3_SMBA / DCMI_D0/PA9, 69 USART1_RX/TIM1_CH3/OTG_FS_ID/DCMI_D1/PA10, 70 USART1_CTS/CAN1_RX/TIM1_CH4/OTG_FS_DM/PA11, 71 USART1_RTS/CAN1_TX/TIM1_ETR/OTG_FS_DP/PA12, 72 JTMS/SWDIO/PA13, 73 VCAP, 74 GND, 75 VDD, 76 JTCK/SWCLK/PA14, 77 SPI3_NSS/I2S3_WS/TIM2_CH1_ETR/ SPI1_NSS/JTDI/PA15, 78 SPI3_SCK/I2S3_CK/UART4_TX/SDIO_D2/DCMI_D8/USART3_TX/PC10, 79 UART4_RX/SPI3_MISO/SDIO_D3/DCMI_D4/USART3_RX/PC11, 80 UART5_TX/SDIO_CK/DCMI_D9/SPI3_MOSI/I2S3_SD/USART3_CK/PC12, 81 FSMC_D2/CAN1_RX/PD0, 82 FSMC_D3/CAN1_TX/PD1, 83 TIM3_ETR/UART5_RX/SDIO_CMD/DCMI_D11/PD2, 84 FSMC_CLK/USART2_CTS/PD3, 85 FSMC_NOE/USART2_RTS/PD4, 86 FSMC_NWE/USART2_TX/PD5, 87 FSMC_NWAIT/USART2_R  X/PD6, 88 USART2_CK/FSMC_NE1/FSMC_NCE2/PD7, 89 JTDO/TRACESWO/SPI3_SCK/I2S3_CK/TIM2_CH2/SPI1_SCK/PB3, 90 NJTRST/SPI3_MISO/TIM3_CH1/SPI1_MISO/PB4, 91 I2C1_SMBA/CAN2_RX/OTG_HS_ULPI_D7/ETH_PPS_OUT/TIM3_CH2/SPI1_MOSI/SPI3_MOSI/DCMI_D10/I2S3_SD/PB5, 92 I2C1_SCL/TIM4_CH1/CAN2_TX/OTG_FS_INTN/DCMI_D5/USART1_TX/PB6, 93 I2C1_SDA/FSMC_NL/DCMI_VSYNC/USART1_RX/TIM4_CH2/PB7, 94 BOOT0, 95 TIM4_CH3/SDIO_D4/TIM10_CH1/DCMI_D6/OTG_FS_SCL/ETH_MII_TXD3/I2C1_SCL/CAN1_RX/PB8, 96 SPI2_NSS/I2S2_WS/TIM4_CH4/TIM11_CH1/OTG_FS_SDA/SDIO_D5/DCMI_D7/I2C1_SDA/CAN1_TX/PB9, 97 TIM4_ETR/FSMC_NBL0/DCMI_D2/PE0, 98 FSMC_NBL1/DCMI_D3/PE1, 99 RFU, 100 VDD

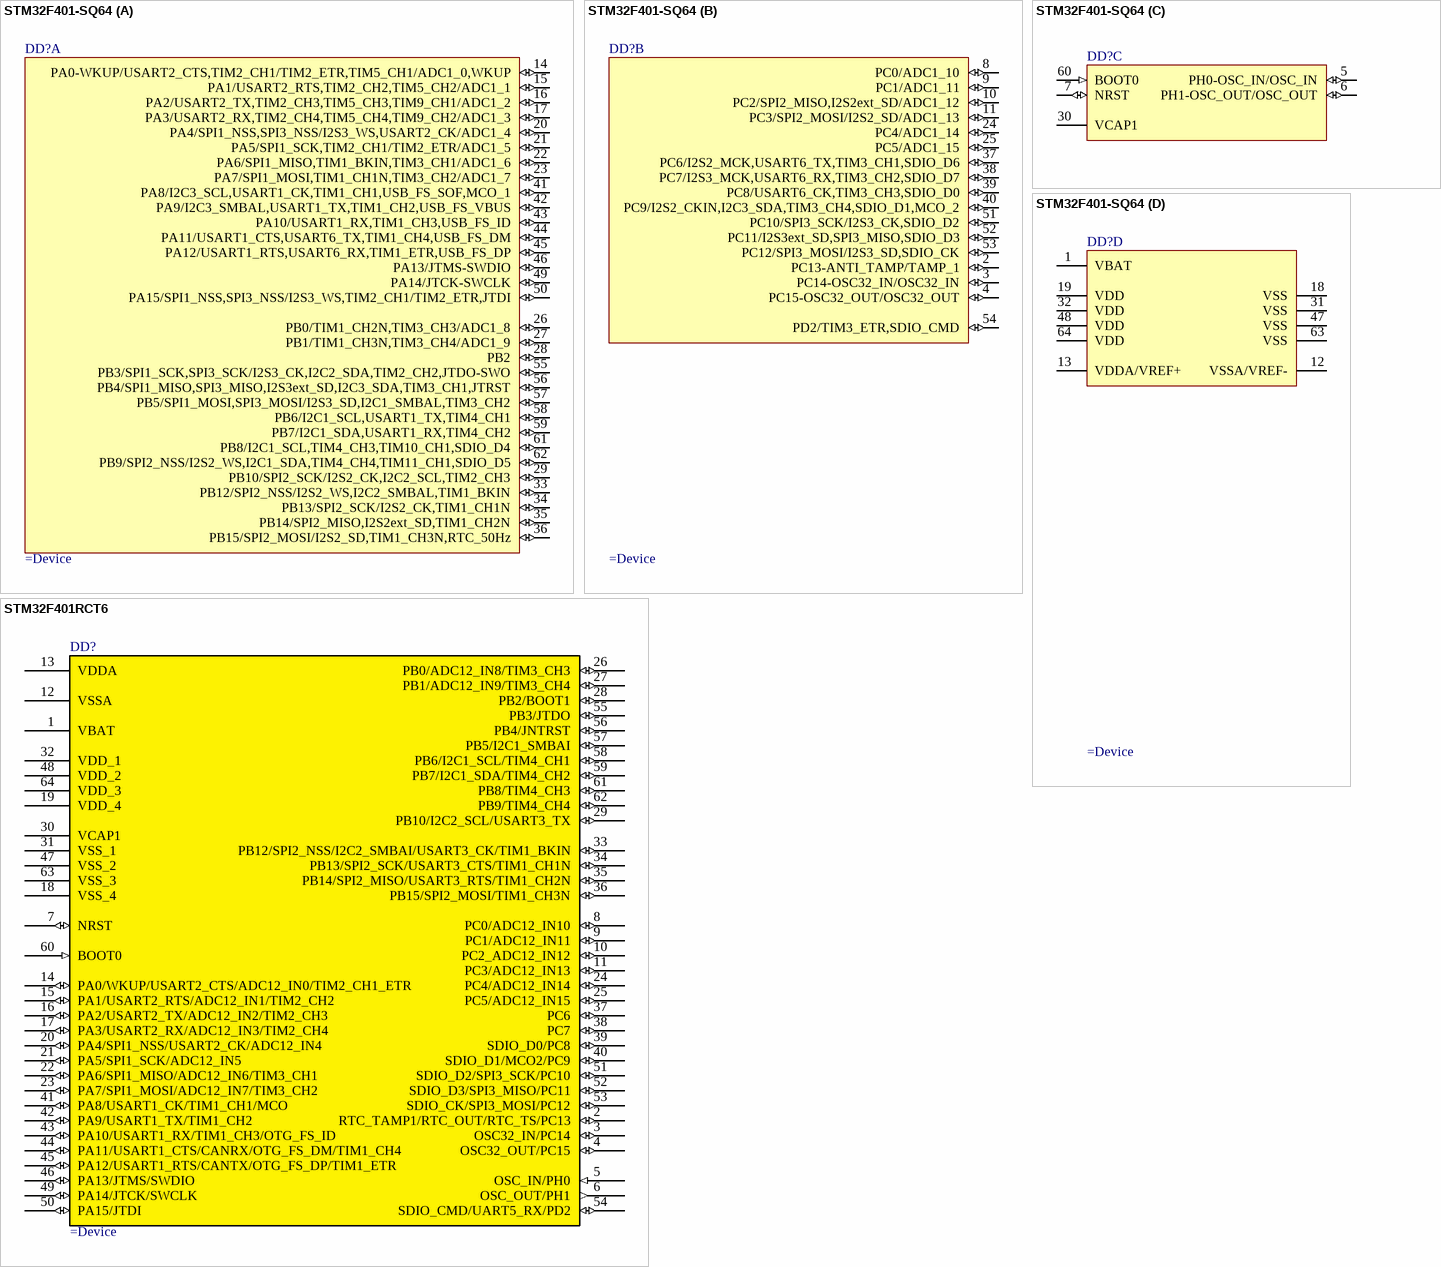
[diagram p7: symbols STM32F401-SQ64 to STM32F401RCT6]

## STM32F401-SQ64
designator DD?
part A pins: 14 PA0-WKUP/USART2_CTS,TIM2_CH1/TIM2_ETR,TIM5_CH1/ADC1_0,WKUP (io), 15 PA1/USART2_RTS,TIM2_CH2,TIM5_CH2/ADC1_1 (io), 16 PA2/USART2_TX,TIM2_CH3,TIM5_CH3,TIM9_CH1/ADC1_2 (io), 17 PA3/USART2_RX,TIM2_CH4,TIM5_CH4,TIM9_CH2/ADC1_3 (io), 20 PA4/SPI1_NSS,SPI3_NSS/I2S3_WS,USART2_CK/ADC1_4 (io), 21 PA5/SPI1_SCK,TIM2_CH1/TIM2_ETR/ADC1_5 (io), 22 PA6/SPI1_MISO,TIM1_BKIN,TIM3_CH1/ADC1_6 (io), 23 PA7/SPI1_MOSI,TIM1_CH1N,TIM3_CH2/ADC1_7 (io), 26 PB0/TIM1_CH2N,TIM3_CH3/ADC1_8 (io), 27 PB1/TIM1_CH3N,TIM3_CH4/ADC1_9 (io), 28 PB2 (io), 29 PB10/SPI2_SCK/I2S2_CK,I2C2_SCL,TIM2_CH3 (io), 33 PB12/SPI2_NSS/I2S2_WS,I2C2_SMBAL,TIM1_BKIN (io), 34 PB13/SPI2_SCK/I2S2_CK,TIM1_CH1N (io), 35 PB14/SPI2_MISO,I2S2ext_SD,TIM1_CH2N (io), 36 PB15/SPI2_MOSI/I2S2_SD,TIM1_CH3N,RTC_50Hz (io), 41 PA8/I2C3_SCL,USART1_CK,TIM1_CH1,USB_FS_SOF,MCO_1 (io), 42 PA9/I2C3_SMBAL,USART1_TX,TIM1_CH2,USB_FS_VBUS (io), 43 PA10/USART1_RX,TIM1_CH3,USB_FS_ID (io), 44 PA11/USART1_CTS,USART6_TX,TIM1_CH4,USB_FS_DM (io), 45 PA12/USART1_RTS,USART6_RX,TIM1_ETR,USB_FS_DP (io), 46 PA13/JTMS-SWDIO (io), 49 PA14/JTCK-SWCLK (io), 50 PA15/SPI1_NSS,SPI3_NSS/I2S3_WS,TIM2_CH1/TIM2_ETR,JTDI (io), 55 PB3/SPI1_SCK,SPI3_SCK/I2S3_CK,I2C2_SDA,TIM2_CH2,JTDO-SWO (io), 56 PB4/SPI1_MISO,SPI3_MISO,I2S3ext_SD,I2C3_SDA,TIM3_CH1,JTRST (io), 57 PB5/SPI1_MOSI,SPI3_MOSI/I2S3_SD,I2C1_SMBAL,TIM3_CH2 (io), 58 PB6/I2C1_SCL,USART1_TX,TIM4_CH1 (io), 59 PB7/I2C1_SDA,USART1_RX,TIM4_CH2 (io), 61 PB8/I2C1_SCL,TIM4_CH3,TIM10_CH1,SDIO_D4 (io), 62 PB9/SPI2_NSS/I2S2_WS,I2C1_SDA,TIM4_CH4,TIM11_CH1,SDIO_D5 (io)
part B pins: 2 PC13-ANTI_TAMP/TAMP_1 (io), 3 PC14-OSC32_IN/OSC32_IN (io), 4 PC15-OSC32_OUT/OSC32_OUT (io), 8 PC0/ADC1_10 (io), 9 PC1/ADC1_11 (io), 10 PC2/SPI2_MISO,I2S2ext_SD/ADC1_12 (io), 11 PC3/SPI2_MOSI/I2S2_SD/ADC1_13 (io), 24 PC4/ADC1_14 (io), 25 PC5/ADC1_15 (io), 37 PC6/I2S2_MCK,USART6_TX,TIM3_CH1,SDIO_D6 (io), 38 PC7/I2S3_MCK,USART6_RX,TIM3_CH2,SDIO_D7 (io), 39 PC8/USART6_CK,TIM3_CH3,SDIO_D0 (io), 40 PC9/I2S2_CKIN,I2C3_SDA,TIM3_CH4,SDIO_D1,MCO_2 (io), 51 PC10/SPI3_SCK/I2S3_CK,SDIO_D2 (io), 52 PC11/I2S3ext_SD,SPI3_MISO,SDIO_D3 (io), 53 PC12/SPI3_MOSI/I2S3_SD,SDIO_CK (io), 54 PD2/TIM3_ETR,SDIO_CMD (io)
part C pins: 5 PH0-OSC_IN/OSC_IN (io), 6 PH1-OSC_OUT/OSC_OUT (io), 7 NRST (io), 30 VCAP1 (power), 60 BOOT0 (in)
part D pins: 1 VBAT (power), 12 VSSA/VREF- (power), 13 VDDA/VREF+ (power), 18 VSS (power), 19 VDD (power), 31 VSS (power), 32 VDD (power), 47 VSS (power), 48 VDD (power), 63 VSS (power), 64 VDD (power)

## STM32F401RCT6
designator DD?
STM32 ARM-based 32-bit MCU with 128 Kbytes Flash, 64-pin LQFP, Industrial Temperature
pins: 1 VBAT (power), 2 RTC_TAMP1/RTC_OUT/RTC_TS/PC13 (io), 3 OSC32_IN/PC14 (io), 4 OSC32_OUT/PC15 (io), 5 OSC_IN/PH0 (in), 6 OSC_OUT/PH1 (out), 7 NRST (io), 8 PC0/ADC12_IN10 (io), 9 PC1/ADC12_IN11 (io), 10 PC2_ADC12_IN12 (io), 11 PC3/ADC12_IN13 (io), 12 VSSA (power), 13 VDDA (power), 14 PA0/WKUP/USART2_CTS/ADC12_IN0/TIM2_CH1_ETR (io), 15 PA1/USART2_RTS/ADC12_IN1/TIM2_CH2 (io), 16 PA2/USART2_TX/ADC12_IN2/TIM2_CH3 (io), 17 PA3/USART2_RX/ADC12_IN3/TIM2_CH4 (io), 18 VSS_4 (power), 19 VDD_4 (power), 20 PA4/SPI1_NSS/USART2_CK/ADC12_IN4 (io), 21 PA5/SPI1_SCK/ADC12_IN5 (io), 22 PA6/SPI1_MISO/ADC12_IN6/TIM3_CH1 (io), 23 PA7/SPI1_MOSI/ADC12_IN7/TIM3_CH2 (io), 24 PC4/ADC12_IN14 (io), 25 PC5/ADC12_IN15 (io), 26 PB0/ADC12_IN8/TIM3_CH3 (io), 27 PB1/ADC12_IN9/TIM3_CH4 (io), 28 PB2/BOOT1 (io), 29 PB10/I2C2_SCL/USART3_TX (io), 30 VCAP1 (power), 31 VSS_1 (power), 32 VDD_1 (power), 33 PB12/SPI2_NSS/I2C2_SMBAI/USART3_CK/TIM1_BKIN (io), 34 PB13/SPI2_SCK/USART3_CTS/TIM1_CH1N (io), 35 PB14/SPI2_MISO/USART3_RTS/TIM1_CH2N (io), 36 PB15/SPI2_MOSI/TIM1_CH3N (io), 37 PC6 (io), 38 PC7 (io), 39 SDIO_D0/PC8 (io), 40 SDIO_D1/MCO2/PC9 (io), 41 PA8/USART1_CK/TIM1_CH1/MCO (io), 42 PA9/USART1_TX/TIM1_CH2 (io), 43 PA10/USART1_RX/TIM1_CH3/OTG_FS_ID (io), 44 PA11/USART1_CTS/CANRX/OTG_FS_DM/TIM1_CH4 (io), 45 PA12/USART1_RTS/CANTX/OTG_FS_DP/TIM1_ETR (io), 46 PA13/JTMS/SWDIO (io), 47 VSS_2 (power), 48 VDD_2 (power), 49 PA14/JTCK/SWCLK (io), 50 PA15/JTDI (io), 51 SDIO_D2/SPI3_SCK/PC10 (io), 52 SDIO_D3/SPI3_MISO/PC11 (io), 53 SDIO_CK/SPI3_MOSI/PC12 (io), 54 SDIO_CMD/UART5_RX/PD2 (io), 55 PB3/JTDO (io), 56 PB4/JNTRST (io), 57 PB5/I2C1_SMBAI (io), 58 PB6/I2C1_SCL/TIM4_CH1 (io), 59 PB7/I2C1_SDA/TIM4_CH2 (io), 60 BOOT0 (in), 61 PB8/TIM4_CH3 (io), 62 PB9/TIM4_CH4 (io), 63 VSS_3 (power), 64 VDD_3 (power)

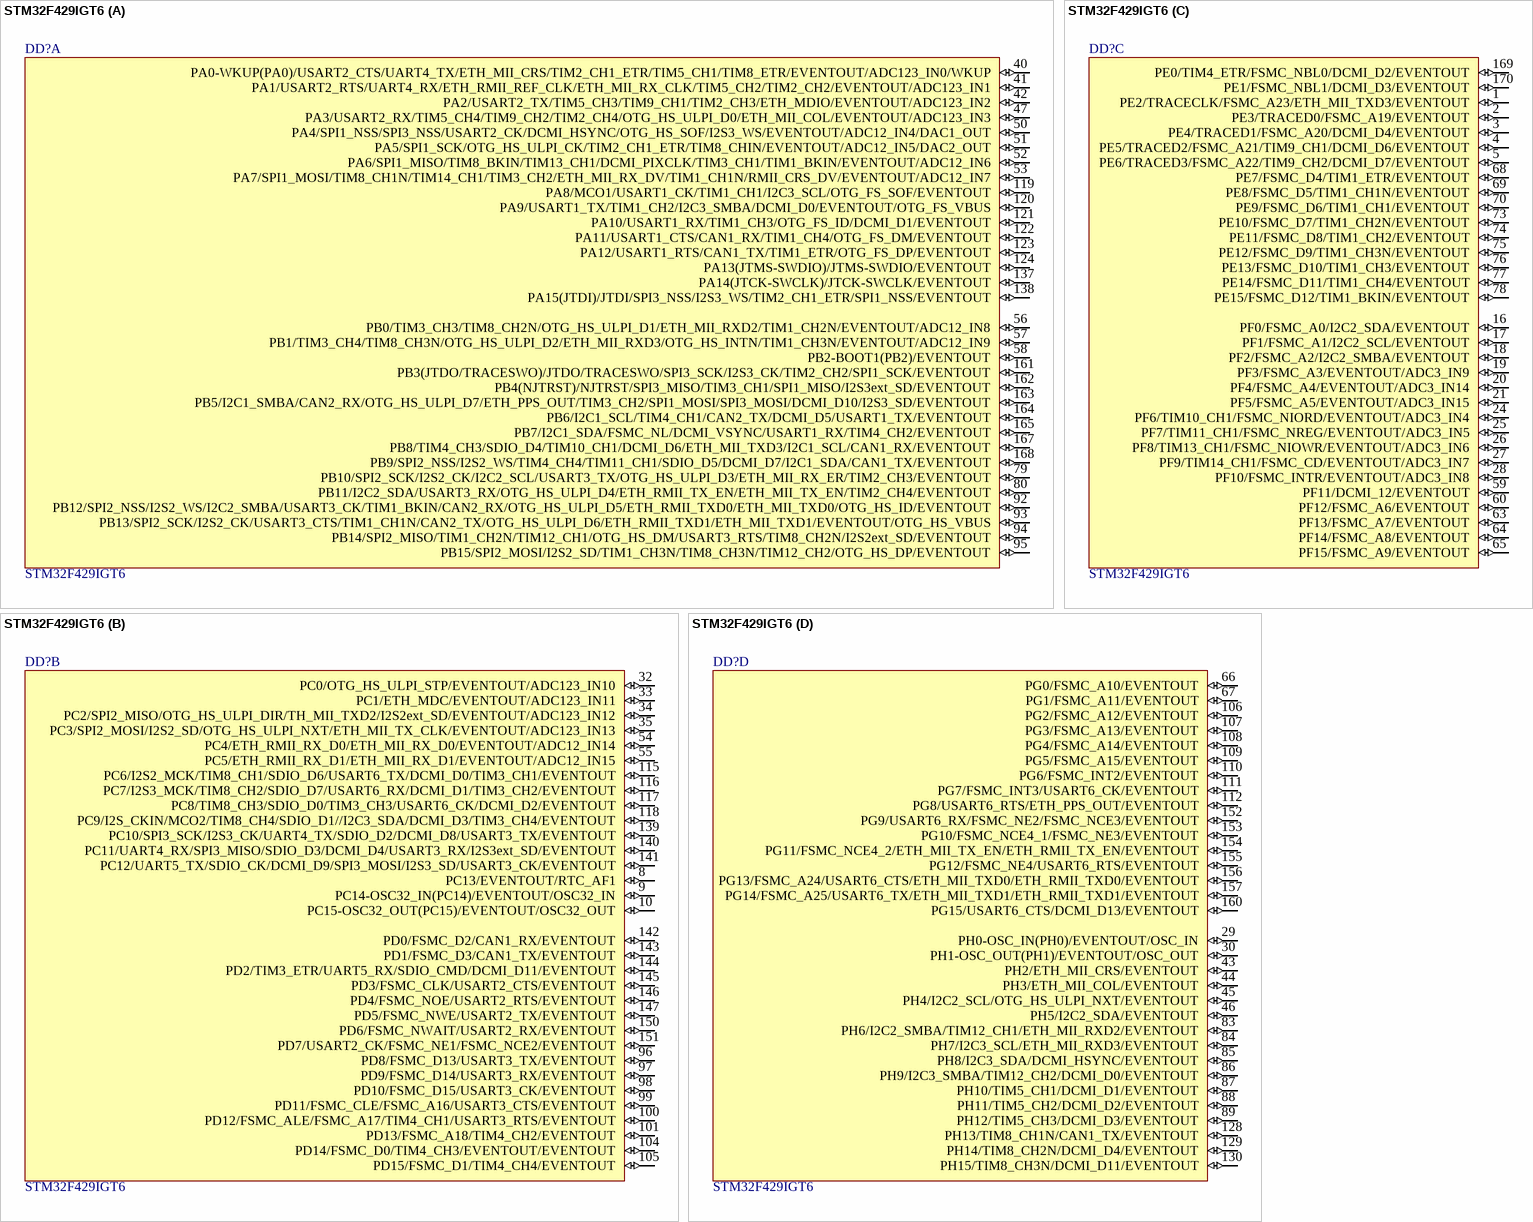
[diagram p8: symbol STM32F429IGT6]

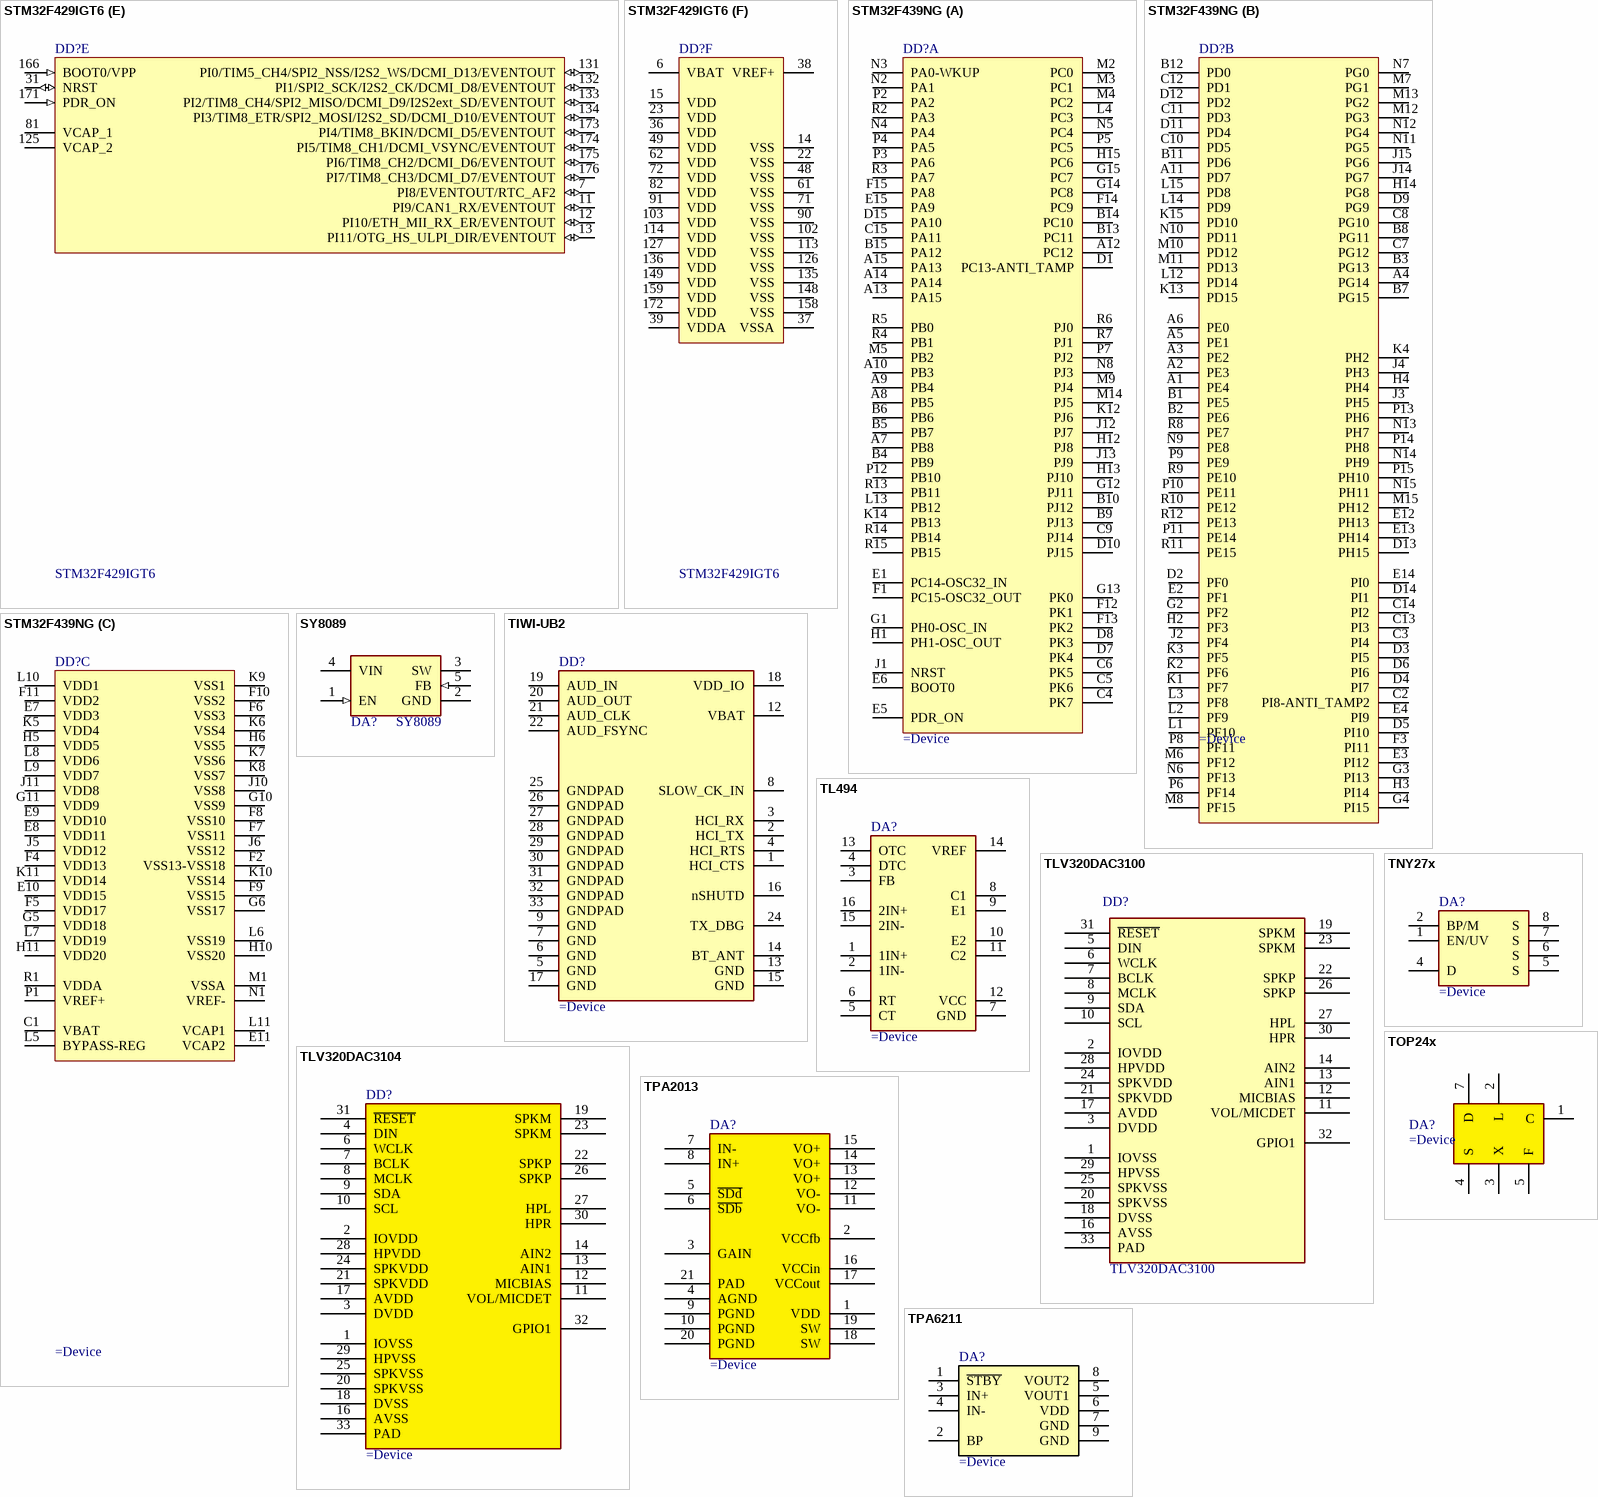
[diagram p9: symbols STM32F429IGT6 to TPA6211]